# Altium integrated library Renesas Microprocessor SuperH.IntLib: 433 symbols (part 37 of 62)
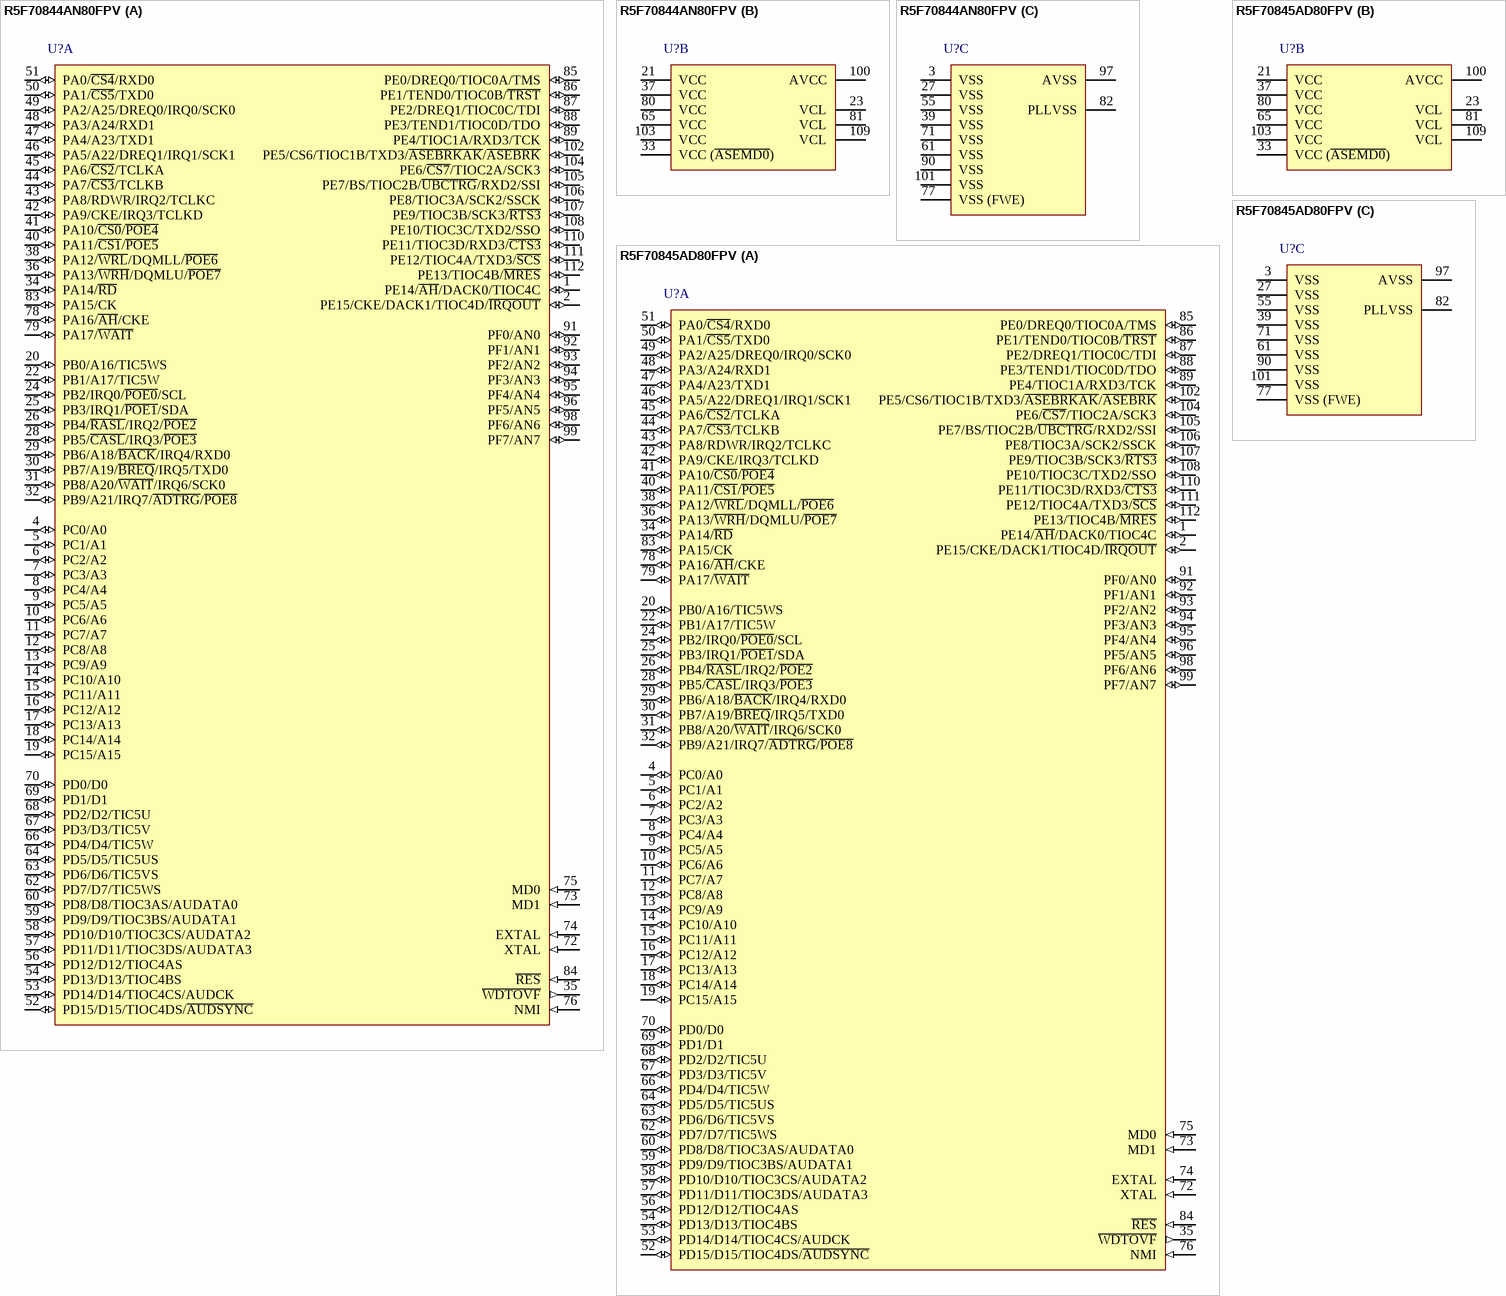
[diagram p304: symbols R5F70844AN80FPV to R5F70845AD80FPV]

## R5F70844AN80FPV
designator U?
32-Bit RISC Microcomputer, SH7080 Series, SH-2 core, 80MHz, 256K ROM, 16K RAM, PLQP0112JA-A (FP-112EV) Package, -20 to 85°C; Published: 28-Aug-2009; LatestRevisionDate: 15-Feb-2010; LatestRevisionNote: Updated to datasheet revision 4.00 Dec-2009.; DatasheetVersion: Rev.4.00, Dec-2009; PackageVersion: Sep-2005; PackageReference: PLQP0112JA-A; Publisher: Altium Limited; PackageDescription: 112-Pin Plastic Low Profile QFP, 20 x 20 x 1.4 mm Body, 0.65 mm Pitch; Code_JEITA: P-LQFP112-20x20-0.65; ComponentLink1Description: Manufacturer Link; ComponentLink1URL: http://www.renesas.com/fmwk.jsp?cnt=sh7080_root.jsp&fp=/products/mpumcu/superh_family/sh7080_series/sh7080_group/; ComponentLink2Description: Datasheet; ComponentLink2URL: http://documentation.renesas.com/eng/products/mpumcu/rej09b0181_sh7080.pdf; ComponentLink3Description: Packaging Specification; ComponentLink3URL: http://sg.renesas.com/media/products/common_info/package/pdf/ic/code/plqp0112ja_a.pdf
footprint PLQP0112JA-A_N (QFP, 112-Leads, Body 20x20mm, Pitch 0.65mm, IPC Medium Density)
footprint PLQP0112JA-A_L (QFP, 112-Leads, Body 20x20mm, Pitch 0.65mm, IPC High Density)
footprint PLQP0112JA-A_M (QFP, 112-Leads, Body 20x20mm, Pitch 0.65mm, IPC Low Density)
part A pins: 1 PE14/~{AH}/DACK0/TIOC4C (io), 2 PE15/CKE/DACK1/TIOC4D/~{IRQOUT} (io), 4 PC0/A0 (io), 5 PC1/A1 (io), 6 PC2/A2 (io), 7 PC3/A3 (io), 8 PC4/A4 (io), 9 PC5/A5 (io), 10 PC6/A6 (io), 11 PC7/A7 (io), 12 PC8/A8 (io), 13 PC9/A9 (io), 14 PC10/A10 (io), 15 PC11/A11 (io), 16 PC12/A12 (io), 17 PC13/A13 (io), 18 PC14/A14 (io), 19 PC15/A15 (io), 20 PB0/A16/TIC5WS (io), 22 PB1/A17/TIC5W (io), 24 PB2/IRQ0/~{POE0}/SCL (io), 25 PB3/IRQ1/~{POE1}/SDA (io), 26 PB4/~{RASL}/IRQ2/~{POE2} (io), 28 PB5/~{CASL}/IRQ3/~{POE3} (io), 29 PB6/A18/~{BACK}/IRQ4/RXD0 (io), 30 PB7/A19/~{BREQ}/IRQ5/TXD0 (io), 31 PB8/A20/~{WAIT}/IRQ6/SCK0 (io), 32 PB9/A21/IRQ7/~{ADTRG}/~{POE8} (io), 34 PA14/~{RD} (io), 35 ~{WDTOVF} (out), 36 PA13/~{WRH}/DQMLU/~{POE7} (io), 38 PA12/~{WRL}/DQMLL/~{POE6} (io), 40 PA11/~{CS1}/~{POE5} (io), 41 PA10/~{CS0}/~{POE4} (io), 42 PA9/CKE/IRQ3/TCLKD (io), 43 PA8/RDWR/IRQ2/TCLKC (io), 44 PA7/~{CS3}/TCLKB (io), 45 PA6/~{CS2}/TCLKA (io), 46 PA5/A22/DREQ1/IRQ1/SCK1 (io), 47 PA4/A23/TXD1 (io), 48 PA3/A24/RXD1 (io), 49 PA2/A25/DREQ0/IRQ0/SCK0 (io), 50 PA1/~{CS5}/TXD0 (io), 51 PA0/~{CS4}/RXD0 (io), 52 PD15/D15/TIOC4DS/~{AUDSYNC} (io), 53 PD14/D14/TIOC4CS/AUDCK (io), 54 PD13/D13/TIOC4BS (io), 56 PD12/D12/TIOC4AS (io), 57 PD11/D11/TIOC3DS/AUDATA3 (io), 58 PD10/D10/TIOC3CS/AUDATA2 (io), 59 PD9/D9/TIOC3BS/AUDATA1 (io), 60 PD8/D8/TIOC3AS/AUDATA0 (io), 62 PD7/D7/TIC5WS (io), 63 PD6/D6/TIC5VS (io), 64 PD5/D5/TIC5US (io), 66 PD4/D4/TIC5W (io), 67 PD3/D3/TIC5V (io), 68 PD2/D2/TIC5U (io), 69 PD1/D1 (io), 70 PD0/D0 (io), 72 XTAL (in), 73 MD1 (in), 74 EXTAL (in), 75 MD0 (in), 76 NMI (in), 78 PA16/~{AH}/CKE (io), 79 PA17/~{WAIT} (io), 83 PA15/CK (io), 84 ~{RES} (in), 85 PE0/DREQ0/TIOC0A/TMS (io), 86 PE1/TEND0/TIOC0B/~{TRST} (io), 87 PE2/DREQ1/TIOC0C/TDI (io), 88 PE3/TEND1/TIOC0D/TDO (io), 89 PE4/TIOC1A/RXD3/TCK (io), 91 PF0/AN0 (io), 92 PF1/AN1 (io), 93 PF2/AN2 (io), 94 PF3/AN3 (io), 95 PF4/AN4 (io), 96 PF5/AN5 (io), 98 PF6/AN6 (io), 99 PF7/AN7 (io), 102 PE5/CS6/TIOC1B/TXD3/~{ASEBRKAK}/~{ASEBRK} (io), 104 PE6/~{CS7}/TIOC2A/SCK3 (io), 105 PE7/BS/TIOC2B/~{UBCTRG}/RXD2/SSI (io), 106 PE8/TIOC3A/SCK2/SSCK (io), 107 PE9/TIOC3B/SCK3/~{RTS3} (io), 108 PE10/TIOC3C/TXD2/SSO (io), 110 PE11/TIOC3D/RXD3/~{CTS3} (io), 111 PE12/TIOC4A/TXD3/~{SCS} (io), 112 PE13/TIOC4B/~{MRES} (io)
part B pins: 21 VCC (power), 23 VCL (power), 33 VCC (~{ASEMD0}) (power), 37 VCC (power), 65 VCC (power), 80 VCC (power), 81 VCL (power), 100 AVCC (power), 103 VCC (power), 109 VCL (power)
part C pins: 3 VSS (power), 27 VSS (power), 39 VSS (power), 55 VSS (power), 61 VSS (power), 71 VSS (power), 77 VSS (FWE) (power), 82 PLLVSS (power), 90 VSS (power), 97 AVSS (power), 101 VSS (power)

## R5F70845AD80FPV
designator U?
32-Bit RISC Microcomputer, SH7080 Series, SH-2 core, 80MHz, 512K ROM, 32K RAM, PLQP0112JA-A (FP-112EV) Package, -40 to 85°C; Published: 28-Aug-2009; LatestRevisionDate: 15-Feb-2010; LatestRevisionNote: Updated to datasheet revision 4.00 Dec-2009.; DatasheetVersion: Rev.4.00, Dec-2009; PackageVersion: Sep-2005; PackageReference: PLQP0112JA-A; Publisher: Altium Limited; PackageDescription: 112-Pin Plastic Low Profile QFP, 20 x 20 x 1.4 mm Body, 0.65 mm Pitch; Code_JEITA: P-LQFP112-20x20-0.65; ComponentLink1Description: Manufacturer Link; ComponentLink1URL: http://www.renesas.com/fmwk.jsp?cnt=sh7080_root.jsp&fp=/products/mpumcu/superh_family/sh7080_series/sh7080_group/; ComponentLink2Description: Datasheet; ComponentLink2URL: http://documentation.renesas.com/eng/products/mpumcu/rej09b0181_sh7080.pdf; ComponentLink3Description: Packaging Specification; ComponentLink3URL: http://sg.renesas.com/media/products/common_info/package/pdf/ic/code/plqp0112ja_a.pdf
footprint PLQP0112JA-A_N (QFP, 112-Leads, Body 20x20mm, Pitch 0.65mm, IPC Medium Density)
footprint PLQP0112JA-A_L (QFP, 112-Leads, Body 20x20mm, Pitch 0.65mm, IPC High Density)
footprint PLQP0112JA-A_M (QFP, 112-Leads, Body 20x20mm, Pitch 0.65mm, IPC Low Density)
part A pins: 1 PE14/~{AH}/DACK0/TIOC4C (io), 2 PE15/CKE/DACK1/TIOC4D/~{IRQOUT} (io), 4 PC0/A0 (io), 5 PC1/A1 (io), 6 PC2/A2 (io), 7 PC3/A3 (io), 8 PC4/A4 (io), 9 PC5/A5 (io), 10 PC6/A6 (io), 11 PC7/A7 (io), 12 PC8/A8 (io), 13 PC9/A9 (io), 14 PC10/A10 (io), 15 PC11/A11 (io), 16 PC12/A12 (io), 17 PC13/A13 (io), 18 PC14/A14 (io), 19 PC15/A15 (io), 20 PB0/A16/TIC5WS (io), 22 PB1/A17/TIC5W (io), 24 PB2/IRQ0/~{POE0}/SCL (io), 25 PB3/IRQ1/~{POE1}/SDA (io), 26 PB4/~{RASL}/IRQ2/~{POE2} (io), 28 PB5/~{CASL}/IRQ3/~{POE3} (io), 29 PB6/A18/~{BACK}/IRQ4/RXD0 (io), 30 PB7/A19/~{BREQ}/IRQ5/TXD0 (io), 31 PB8/A20/~{WAIT}/IRQ6/SCK0 (io), 32 PB9/A21/IRQ7/~{ADTRG}/~{POE8} (io), 34 PA14/~{RD} (io), 35 ~{WDTOVF} (out), 36 PA13/~{WRH}/DQMLU/~{POE7} (io), 38 PA12/~{WRL}/DQMLL/~{POE6} (io), 40 PA11/~{CS1}/~{POE5} (io), 41 PA10/~{CS0}/~{POE4} (io), 42 PA9/CKE/IRQ3/TCLKD (io), 43 PA8/RDWR/IRQ2/TCLKC (io), 44 PA7/~{CS3}/TCLKB (io), 45 PA6/~{CS2}/TCLKA (io), 46 PA5/A22/DREQ1/IRQ1/SCK1 (io), 47 PA4/A23/TXD1 (io), 48 PA3/A24/RXD1 (io), 49 PA2/A25/DREQ0/IRQ0/SCK0 (io), 50 PA1/~{CS5}/TXD0 (io), 51 PA0/~{CS4}/RXD0 (io), 52 PD15/D15/TIOC4DS/~{AUDSYNC} (io), 53 PD14/D14/TIOC4CS/AUDCK (io), 54 PD13/D13/TIOC4BS (io), 56 PD12/D12/TIOC4AS (io), 57 PD11/D11/TIOC3DS/AUDATA3 (io), 58 PD10/D10/TIOC3CS/AUDATA2 (io), 59 PD9/D9/TIOC3BS/AUDATA1 (io), 60 PD8/D8/TIOC3AS/AUDATA0 (io), 62 PD7/D7/TIC5WS (io), 63 PD6/D6/TIC5VS (io), 64 PD5/D5/TIC5US (io), 66 PD4/D4/TIC5W (io), 67 PD3/D3/TIC5V (io), 68 PD2/D2/TIC5U (io), 69 PD1/D1 (io), 70 PD0/D0 (io), 72 XTAL (in), 73 MD1 (in), 74 EXTAL (in), 75 MD0 (in), 76 NMI (in), 78 PA16/~{AH}/CKE (io), 79 PA17/~{WAIT} (io), 83 PA15/CK (io), 84 ~{RES} (in), 85 PE0/DREQ0/TIOC0A/TMS (io), 86 PE1/TEND0/TIOC0B/~{TRST} (io), 87 PE2/DREQ1/TIOC0C/TDI (io), 88 PE3/TEND1/TIOC0D/TDO (io), 89 PE4/TIOC1A/RXD3/TCK (io), 91 PF0/AN0 (io), 92 PF1/AN1 (io), 93 PF2/AN2 (io), 94 PF3/AN3 (io), 95 PF4/AN4 (io), 96 PF5/AN5 (io), 98 PF6/AN6 (io), 99 PF7/AN7 (io), 102 PE5/CS6/TIOC1B/TXD3/~{ASEBRKAK}/~{ASEBRK} (io), 104 PE6/~{CS7}/TIOC2A/SCK3 (io), 105 PE7/BS/TIOC2B/~{UBCTRG}/RXD2/SSI (io), 106 PE8/TIOC3A/SCK2/SSCK (io), 107 PE9/TIOC3B/SCK3/~{RTS3} (io), 108 PE10/TIOC3C/TXD2/SSO (io), 110 PE11/TIOC3D/RXD3/~{CTS3} (io), 111 PE12/TIOC4A/TXD3/~{SCS} (io), 112 PE13/TIOC4B/~{MRES} (io)
part B pins: 21 VCC (power), 23 VCL (power), 33 VCC (~{ASEMD0}) (power), 37 VCC (power), 65 VCC (power), 80 VCC (power), 81 VCL (power), 100 AVCC (power), 103 VCC (power), 109 VCL (power)
part C pins: 3 VSS (power), 27 VSS (power), 39 VSS (power), 55 VSS (power), 61 VSS (power), 71 VSS (power), 77 VSS (FWE) (power), 82 PLLVSS (power), 90 VSS (power), 97 AVSS (power), 101 VSS (power)

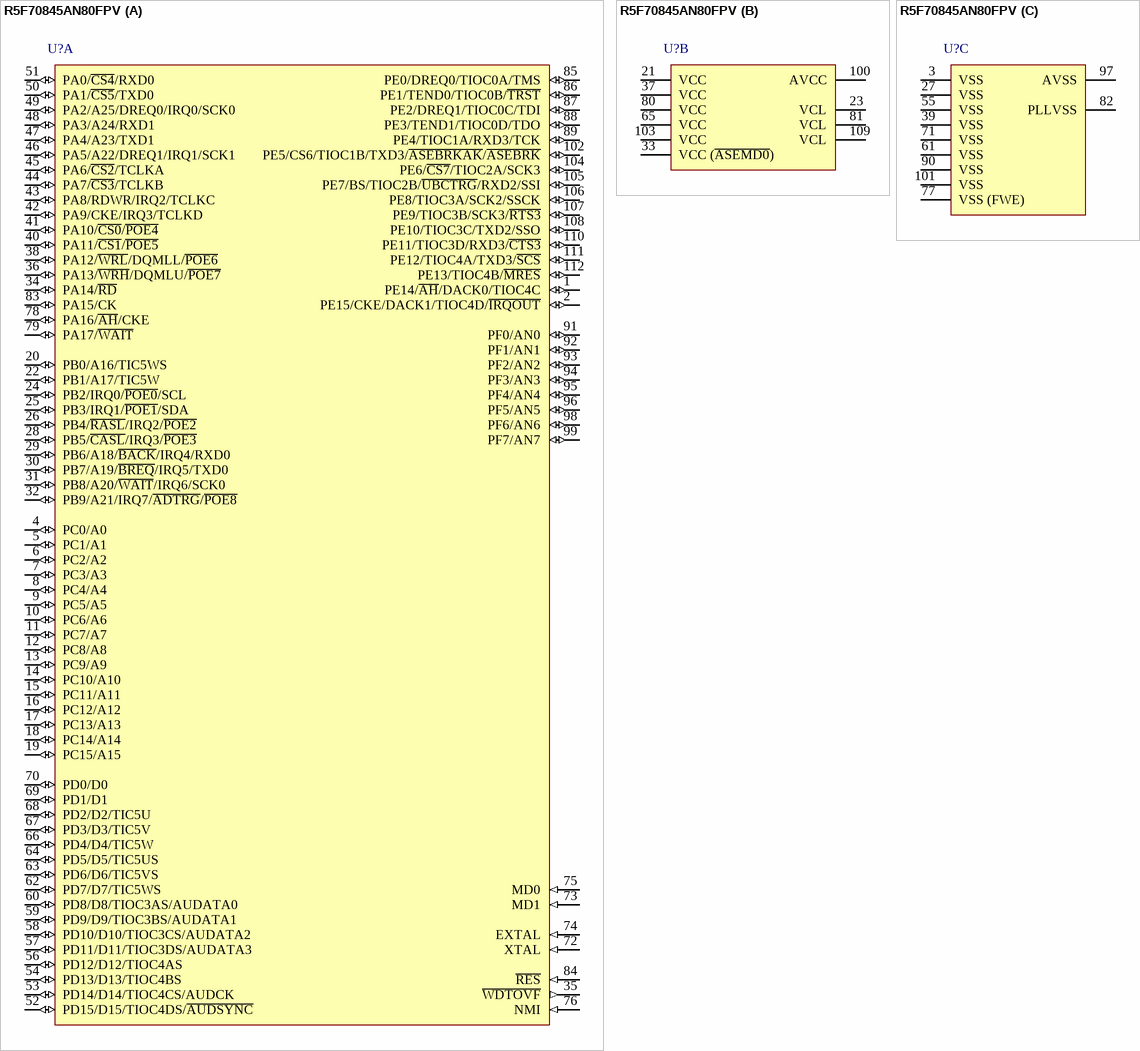
[diagram p133: symbol R5F70845AN80FPV]

## R5F70845AN80FPV
designator U?
32-Bit RISC Microcomputer, SH7080 Series, SH-2 core, 80MHz, 512K ROM, 32K RAM, PLQP0112JA-A (FP-112EV) Package, -20 to 85°C; Published: 28-Aug-2009; LatestRevisionDate: 15-Feb-2010; LatestRevisionNote: Updated to datasheet revision 4.00 Dec-2009.; DatasheetVersion: Rev.4.00, Dec-2009; PackageVersion: Sep-2005; PackageReference: PLQP0112JA-A; Publisher: Altium Limited; PackageDescription: 112-Pin Plastic Low Profile QFP, 20 x 20 x 1.4 mm Body, 0.65 mm Pitch; Code_JEITA: P-LQFP112-20x20-0.65; ComponentLink1Description: Manufacturer Link; ComponentLink1URL: http://www.renesas.com/fmwk.jsp?cnt=sh7080_root.jsp&fp=/products/mpumcu/superh_family/sh7080_series/sh7080_group/; ComponentLink2Description: Datasheet; ComponentLink2URL: http://documentation.renesas.com/eng/products/mpumcu/rej09b0181_sh7080.pdf; ComponentLink3Description: Packaging Specification; ComponentLink3URL: http://sg.renesas.com/media/products/common_info/package/pdf/ic/code/plqp0112ja_a.pdf
footprint PLQP0112JA-A_N (QFP, 112-Leads, Body 20x20mm, Pitch 0.65mm, IPC Medium Density)
footprint PLQP0112JA-A_L (QFP, 112-Leads, Body 20x20mm, Pitch 0.65mm, IPC High Density)
footprint PLQP0112JA-A_M (QFP, 112-Leads, Body 20x20mm, Pitch 0.65mm, IPC Low Density)
part A pins: 1 PE14/~{AH}/DACK0/TIOC4C (io), 2 PE15/CKE/DACK1/TIOC4D/~{IRQOUT} (io), 4 PC0/A0 (io), 5 PC1/A1 (io), 6 PC2/A2 (io), 7 PC3/A3 (io), 8 PC4/A4 (io), 9 PC5/A5 (io), 10 PC6/A6 (io), 11 PC7/A7 (io), 12 PC8/A8 (io), 13 PC9/A9 (io), 14 PC10/A10 (io), 15 PC11/A11 (io), 16 PC12/A12 (io), 17 PC13/A13 (io), 18 PC14/A14 (io), 19 PC15/A15 (io), 20 PB0/A16/TIC5WS (io), 22 PB1/A17/TIC5W (io), 24 PB2/IRQ0/~{POE0}/SCL (io), 25 PB3/IRQ1/~{POE1}/SDA (io), 26 PB4/~{RASL}/IRQ2/~{POE2} (io), 28 PB5/~{CASL}/IRQ3/~{POE3} (io), 29 PB6/A18/~{BACK}/IRQ4/RXD0 (io), 30 PB7/A19/~{BREQ}/IRQ5/TXD0 (io), 31 PB8/A20/~{WAIT}/IRQ6/SCK0 (io), 32 PB9/A21/IRQ7/~{ADTRG}/~{POE8} (io), 34 PA14/~{RD} (io), 35 ~{WDTOVF} (out), 36 PA13/~{WRH}/DQMLU/~{POE7} (io), 38 PA12/~{WRL}/DQMLL/~{POE6} (io), 40 PA11/~{CS1}/~{POE5} (io), 41 PA10/~{CS0}/~{POE4} (io), 42 PA9/CKE/IRQ3/TCLKD (io), 43 PA8/RDWR/IRQ2/TCLKC (io), 44 PA7/~{CS3}/TCLKB (io), 45 PA6/~{CS2}/TCLKA (io), 46 PA5/A22/DREQ1/IRQ1/SCK1 (io), 47 PA4/A23/TXD1 (io), 48 PA3/A24/RXD1 (io), 49 PA2/A25/DREQ0/IRQ0/SCK0 (io), 50 PA1/~{CS5}/TXD0 (io), 51 PA0/~{CS4}/RXD0 (io), 52 PD15/D15/TIOC4DS/~{AUDSYNC} (io), 53 PD14/D14/TIOC4CS/AUDCK (io), 54 PD13/D13/TIOC4BS (io), 56 PD12/D12/TIOC4AS (io), 57 PD11/D11/TIOC3DS/AUDATA3 (io), 58 PD10/D10/TIOC3CS/AUDATA2 (io), 59 PD9/D9/TIOC3BS/AUDATA1 (io), 60 PD8/D8/TIOC3AS/AUDATA0 (io), 62 PD7/D7/TIC5WS (io), 63 PD6/D6/TIC5VS (io), 64 PD5/D5/TIC5US (io), 66 PD4/D4/TIC5W (io), 67 PD3/D3/TIC5V (io), 68 PD2/D2/TIC5U (io), 69 PD1/D1 (io), 70 PD0/D0 (io), 72 XTAL (in), 73 MD1 (in), 74 EXTAL (in), 75 MD0 (in), 76 NMI (in), 78 PA16/~{AH}/CKE (io), 79 PA17/~{WAIT} (io), 83 PA15/CK (io), 84 ~{RES} (in), 85 PE0/DREQ0/TIOC0A/TMS (io), 86 PE1/TEND0/TIOC0B/~{TRST} (io), 87 PE2/DREQ1/TIOC0C/TDI (io), 88 PE3/TEND1/TIOC0D/TDO (io), 89 PE4/TIOC1A/RXD3/TCK (io), 91 PF0/AN0 (io), 92 PF1/AN1 (io), 93 PF2/AN2 (io), 94 PF3/AN3 (io), 95 PF4/AN4 (io), 96 PF5/AN5 (io), 98 PF6/AN6 (io), 99 PF7/AN7 (io), 102 PE5/CS6/TIOC1B/TXD3/~{ASEBRKAK}/~{ASEBRK} (io), 104 PE6/~{CS7}/TIOC2A/SCK3 (io), 105 PE7/BS/TIOC2B/~{UBCTRG}/RXD2/SSI (io), 106 PE8/TIOC3A/SCK2/SSCK (io), 107 PE9/TIOC3B/SCK3/~{RTS3} (io), 108 PE10/TIOC3C/TXD2/SSO (io), 110 PE11/TIOC3D/RXD3/~{CTS3} (io), 111 PE12/TIOC4A/TXD3/~{SCS} (io), 112 PE13/TIOC4B/~{MRES} (io)
part B pins: 21 VCC (power), 23 VCL (power), 33 VCC (~{ASEMD0}) (power), 37 VCC (power), 65 VCC (power), 80 VCC (power), 81 VCL (power), 100 AVCC (power), 103 VCC (power), 109 VCL (power)
part C pins: 3 VSS (power), 27 VSS (power), 39 VSS (power), 55 VSS (power), 61 VSS (power), 71 VSS (power), 77 VSS (FWE) (power), 82 PLLVSS (power), 90 VSS (power), 97 AVSS (power), 101 VSS (power)

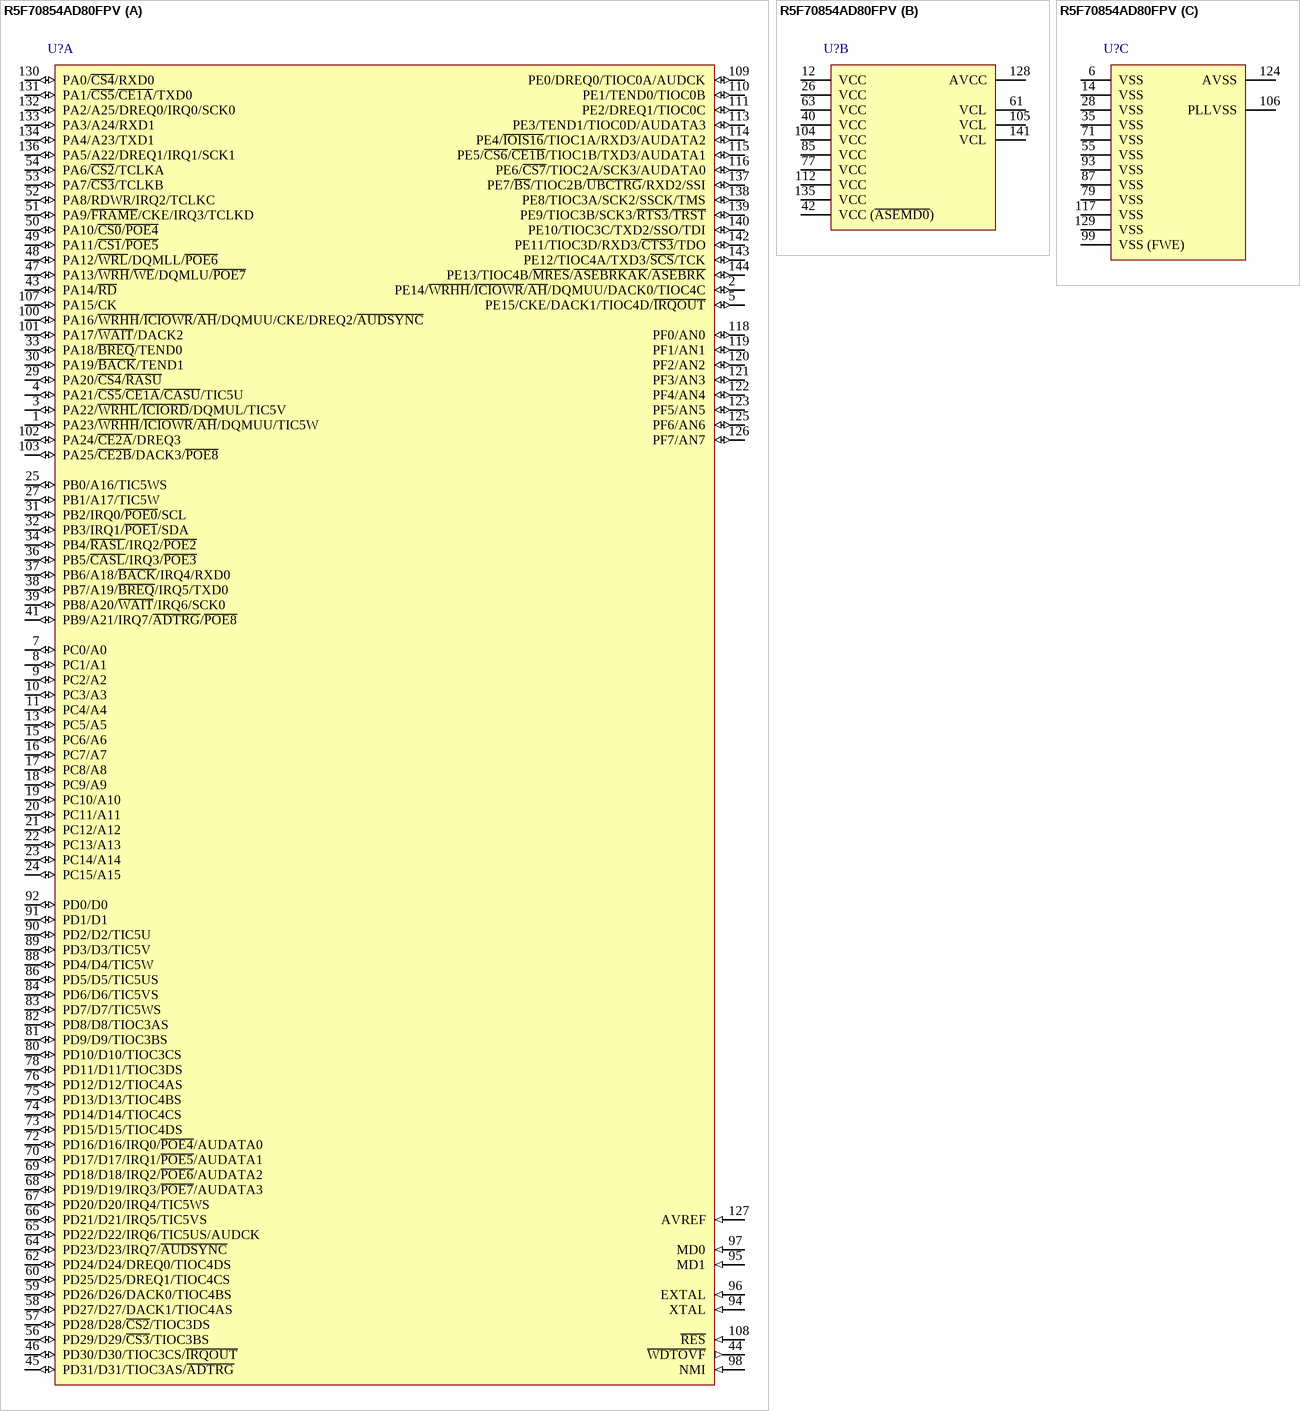
[diagram p134: symbol R5F70854AD80FPV]

## R5F70854AD80FPV
designator U?
32-Bit RISC Microcomputer, SH7080 Series, SH-2 core, 80MHz, 256K ROM, 16K RAM, 144-pin PLQFP, -40 to 85°C; Published: 28-Aug-2009; LatestRevisionDate: 15-Feb-2010; LatestRevisionNote: Updated to datasheet revision 4.00 Dec-2009.; DatasheetVersion: Rev.4.00, Dec-2009; PackageVersion: Sep-2005; PackageReference: PLQP0144KA-A; Publisher: Altium Limited; PackageDescription: 144-Pin Plastic Low Profile QFP, 20 x 20 x 1.4 mm Body, 0.5 mm Pitch; Code_JEITA: P-LQFP144-20x20-0.50; Code_IPC: SQFP50P2200X2200-144; ComponentLink1Description: Manufacturer Link; ComponentLink1URL: http://www.renesas.com/fmwk.jsp?cnt=sh7080_root.jsp&fp=/products/mpumcu/superh_family/sh7080_series/sh7080_group/; ComponentLink2Description: Datasheet; ComponentLink2URL: http://documentation.renesas.com/eng/products/mpumcu/rej09b0181_sh7080.pdf; ComponentLink3Description: Packaging Specification; ComponentLink3URL: http://sg.renesas.com/media/products/common_info/package/pdf/ic/code/plqp0144ka_a.pdf
footprint PLQP0144KA-A_N (Shrink QFP, 144-Leads, Body 20x20mm, Pitch 0.5mm, IPC Medium Density)
footprint PLQP0144KA-A_L (Shrink QFP, 144-Leads, Body 20x20mm, Pitch 0.5mm, IPC High Density)
footprint PLQP0144KA-A_M (Shrink QFP, 144-Leads, Body 20x20mm, Pitch 0.5mm, IPC Low Density)
part A pins: 1 PA23/~{WRHH}/~{ICIOWR}/~{AH}/DQMUU/TIC5W (io), 2 PE14/~{WRHH}/~{ICIOWR}/~{AH}/DQMUU/DACK0/TIOC4C (io), 3 PA22/~{WRHL}/~{ICIORD}/DQMUL/TIC5V (io), 4 PA21/~{CS5}/~{CE1A}/~{CASU}/TIC5U (io), 5 PE15/CKE/DACK1/TIOC4D/~{IRQOUT} (io), 7 PC0/A0 (io), 8 PC1/A1 (io), 9 PC2/A2 (io), 10 PC3/A3 (io), 11 PC4/A4 (io), 13 PC5/A5 (io), 15 PC6/A6 (io), 16 PC7/A7 (io), 17 PC8/A8 (io), 18 PC9/A9 (io), 19 PC10/A10 (io), 20 PC11/A11 (io), 21 PC12/A12 (io), 22 PC13/A13 (io), 23 PC14/A14 (io), 24 PC15/A15 (io), 25 PB0/A16/TIC5WS (io), 27 PB1/A17/TIC5W (io), 29 PA20/~{CS4}/~{RASU} (io), 30 PA19/~{BACK}/TEND1 (io), 31 PB2/IRQ0/~{POE0}/SCL (io), 32 PB3/IRQ1/~{POE1}/SDA (io), 33 PA18/~{BREQ}/TEND0 (io), 34 PB4/~{RASL}/IRQ2/~{POE2} (io), 36 PB5/~{CASL}/IRQ3/~{POE3} (io), 37 PB6/A18/~{BACK}/IRQ4/RXD0 (io), 38 PB7/A19/~{BREQ}/IRQ5/TXD0 (io), 39 PB8/A20/~{WAIT}/IRQ6/SCK0 (io), 41 PB9/A21/IRQ7/~{ADTRG}/~{POE8} (io), 43 PA14/~{RD} (io), 44 ~{WDTOVF} (out), 45 PD31/D31/TIOC3AS/~{ADTRG} (io), 46 PD30/D30/TIOC3CS/~{IRQOUT} (io), 47 PA13/~{WRH}/~{WE}/DQMLU/~{POE7} (io), 48 PA12/~{WRL}/DQMLL/~{POE6} (io), 49 PA11/~{CS1}/~{POE5} (io), 50 PA10/~{CS0}/~{POE4} (io), 51 PA9/~{FRAME}/CKE/IRQ3/TCLKD (io), 52 PA8/RDWR/IRQ2/TCLKC (io), 53 PA7/~{CS3}/TCLKB (io), 54 PA6/~{CS2}/TCLKA (io), 56 PD29/D29/~{CS3}/TIOC3BS (io), 57 PD28/D28/~{CS2}/TIOC3DS (io), 58 PD27/D27/DACK1/TIOC4AS (io), 59 PD26/D26/DACK0/TIOC4BS (io), 60 PD25/D25/DREQ1/TIOC4CS (io), 62 PD24/D24/DREQ0/TIOC4DS (io), 64 PD23/D23/IRQ7/~{AUDSYNC} (io), 65 PD22/D22/IRQ6/TIC5US/AUDCK (io), 66 PD21/D21/IRQ5/TIC5VS (io), 67 PD20/D20/IRQ4/TIC5WS (io), 68 PD19/D19/IRQ3/~{POE7}/AUDATA3 (io), 69 PD18/D18/IRQ2/~{POE6}/AUDATA2 (io), 70 PD17/D17/IRQ1/~{POE5}/AUDATA1 (io), 72 PD16/D16/IRQ0/~{POE4}/AUDATA0 (io), 73 PD15/D15/TIOC4DS (io), 74 PD14/D14/TIOC4CS (io), 75 PD13/D13/TIOC4BS (io), 76 PD12/D12/TIOC4AS (io), 78 PD11/D11/TIOC3DS (io), 80 PD10/D10/TIOC3CS (io), 81 PD9/D9/TIOC3BS (io), 82 PD8/D8/TIOC3AS (io), 83 PD7/D7/TIC5WS (io), 84 PD6/D6/TIC5VS (io), 86 PD5/D5/TIC5US (io), 88 PD4/D4/TIC5W (io), 89 PD3/D3/TIC5V (io), 90 PD2/D2/TIC5U (io), 91 PD1/D1 (io), 92 PD0/D0 (io), 94 XTAL (in), 95 MD1 (in), 96 EXTAL (in), 97 MD0 (in), 98 NMI (in), 100 PA16/~{WRHH}/~{ICIOWR}/~{AH}/DQMUU/CKE/DREQ2/~{AUDSYNC} (io), 101 PA17/~{WAIT}/DACK2 (io), 102 PA24/~{CE2A}/DREQ3 (io), 103 PA25/~{CE2B}/DACK3/~{POE8} (io), 107 PA15/CK (io), 108 ~{RES} (in), 109 PE0/DREQ0/TIOC0A/AUDCK (io), 110 PE1/TEND0/TIOC0B (io), 111 PE2/DREQ1/TIOC0C (io), 113 PE3/TEND1/TIOC0D/AUDATA3 (io), 114 PE4/~{IOIS16}/TIOC1A/RXD3/AUDATA2 (io), 115 PE5/~{CS6}/~{CE1B}/TIOC1B/TXD3/AUDATA1 (io), 116 PE6/~{CS7}/TIOC2A/SCK3/AUDATA0 (io), 118 PF0/AN0 (io), 119 PF1/AN1 (io), 120 PF2/AN2 (io), 121 PF3/AN3 (io), 122 PF4/AN4 (io), 123 PF5/AN5 (io), 125 PF6/AN6 (io), 126 PF7/AN7 (io), 127 AVREF (in), 130 PA0/~{CS4}/RXD0 (io), 131 PA1/~{CS5}/~{CE1A}/TXD0 (io), 132 PA2/A25/DREQ0/IRQ0/SCK0 (io), 133 PA3/A24/RXD1 (io), 134 PA4/A23/TXD1 (io), 136 PA5/A22/DREQ1/IRQ1/SCK1 (io), 137 PE7/~{BS}/TIOC2B/~{UBCTRG}/RXD2/SSI (io), 138 PE8/TIOC3A/SCK2/SSCK/TMS (io), 139 PE9/TIOC3B/SCK3/~{RTS3}/~{TRST} (io), 140 PE10/TIOC3C/TXD2/SSO/TDI (io), 142 PE11/TIOC3D/RXD3/~{CTS3}/TDO (io), 143 PE12/TIOC4A/TXD3/~{SCS}/TCK (io), 144 PE13/TIOC4B/~{MRES}/~{ASEBRKAK}/~{ASEBRK} (io)
part B pins: 12 VCC (power), 26 VCC (power), 40 VCC (power), 42 VCC (~{ASEMD0}) (power), 61 VCL (power), 63 VCC (power), 77 VCC (power), 85 VCC (power), 104 VCC (power), 105 VCL (power), 112 VCC (power), 128 AVCC (power), 135 VCC (power), 141 VCL (power)
part C pins: 6 VSS (power), 14 VSS (power), 28 VSS (power), 35 VSS (power), 55 VSS (power), 71 VSS (power), 79 VSS (power), 87 VSS (power), 93 VSS (power), 99 VSS (FWE) (power), 106 PLLVSS (power), 117 VSS (power), 124 AVSS (power), 129 VSS (power)

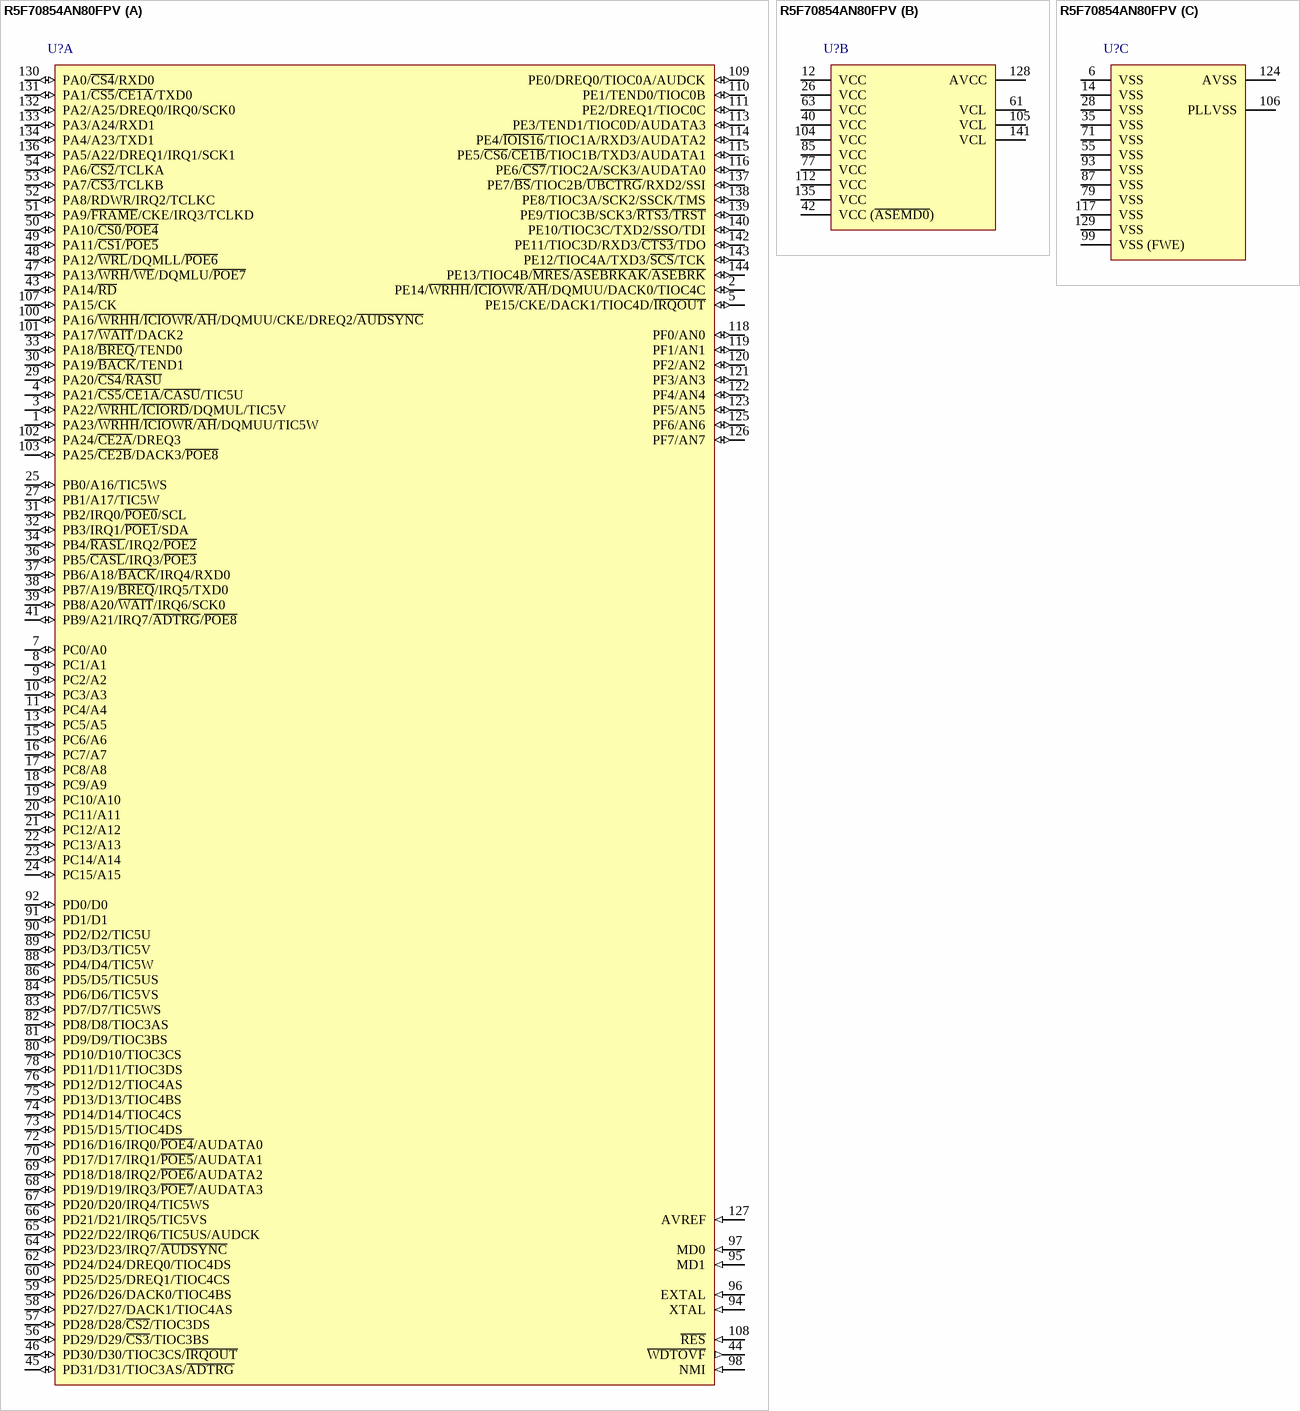
[diagram p135: symbol R5F70854AN80FPV]

## R5F70854AN80FPV
designator U?
32-Bit RISC Microcomputer, SH7080 Series, SH-2 core, 80MHz, 256K ROM, 16K RAM, 144-pin PLQFP, -20 to 85°C; Published: 28-Aug-2009; LatestRevisionDate: 15-Feb-2010; LatestRevisionNote: Updated to datasheet revision 4.00 Dec-2009.; DatasheetVersion: Rev.4.00, Dec-2009; PackageVersion: Sep-2005; PackageReference: PLQP0144KA-A; Publisher: Altium Limited; PackageDescription: 144-Pin Plastic Low Profile QFP, 20 x 20 x 1.4 mm Body, 0.5 mm Pitch; Code_JEITA: P-LQFP144-20x20-0.50; Code_IPC: SQFP50P2200X2200-144; ComponentLink1Description: Manufacturer Link; ComponentLink1URL: http://www.renesas.com/fmwk.jsp?cnt=sh7080_root.jsp&fp=/products/mpumcu/superh_family/sh7080_series/sh7080_group/; ComponentLink2Description: Datasheet; ComponentLink2URL: http://documentation.renesas.com/eng/products/mpumcu/rej09b0181_sh7080.pdf; ComponentLink3Description: Packaging Specification; ComponentLink3URL: http://sg.renesas.com/media/products/common_info/package/pdf/ic/code/plqp0144ka_a.pdf
footprint PLQP0144KA-A_N (Shrink QFP, 144-Leads, Body 20x20mm, Pitch 0.5mm, IPC Medium Density)
footprint PLQP0144KA-A_L (Shrink QFP, 144-Leads, Body 20x20mm, Pitch 0.5mm, IPC High Density)
footprint PLQP0144KA-A_M (Shrink QFP, 144-Leads, Body 20x20mm, Pitch 0.5mm, IPC Low Density)
part A pins: 1 PA23/~{WRHH}/~{ICIOWR}/~{AH}/DQMUU/TIC5W (io), 2 PE14/~{WRHH}/~{ICIOWR}/~{AH}/DQMUU/DACK0/TIOC4C (io), 3 PA22/~{WRHL}/~{ICIORD}/DQMUL/TIC5V (io), 4 PA21/~{CS5}/~{CE1A}/~{CASU}/TIC5U (io), 5 PE15/CKE/DACK1/TIOC4D/~{IRQOUT} (io), 7 PC0/A0 (io), 8 PC1/A1 (io), 9 PC2/A2 (io), 10 PC3/A3 (io), 11 PC4/A4 (io), 13 PC5/A5 (io), 15 PC6/A6 (io), 16 PC7/A7 (io), 17 PC8/A8 (io), 18 PC9/A9 (io), 19 PC10/A10 (io), 20 PC11/A11 (io), 21 PC12/A12 (io), 22 PC13/A13 (io), 23 PC14/A14 (io), 24 PC15/A15 (io), 25 PB0/A16/TIC5WS (io), 27 PB1/A17/TIC5W (io), 29 PA20/~{CS4}/~{RASU} (io), 30 PA19/~{BACK}/TEND1 (io), 31 PB2/IRQ0/~{POE0}/SCL (io), 32 PB3/IRQ1/~{POE1}/SDA (io), 33 PA18/~{BREQ}/TEND0 (io), 34 PB4/~{RASL}/IRQ2/~{POE2} (io), 36 PB5/~{CASL}/IRQ3/~{POE3} (io), 37 PB6/A18/~{BACK}/IRQ4/RXD0 (io), 38 PB7/A19/~{BREQ}/IRQ5/TXD0 (io), 39 PB8/A20/~{WAIT}/IRQ6/SCK0 (io), 41 PB9/A21/IRQ7/~{ADTRG}/~{POE8} (io), 43 PA14/~{RD} (io), 44 ~{WDTOVF} (out), 45 PD31/D31/TIOC3AS/~{ADTRG} (io), 46 PD30/D30/TIOC3CS/~{IRQOUT} (io), 47 PA13/~{WRH}/~{WE}/DQMLU/~{POE7} (io), 48 PA12/~{WRL}/DQMLL/~{POE6} (io), 49 PA11/~{CS1}/~{POE5} (io), 50 PA10/~{CS0}/~{POE4} (io), 51 PA9/~{FRAME}/CKE/IRQ3/TCLKD (io), 52 PA8/RDWR/IRQ2/TCLKC (io), 53 PA7/~{CS3}/TCLKB (io), 54 PA6/~{CS2}/TCLKA (io), 56 PD29/D29/~{CS3}/TIOC3BS (io), 57 PD28/D28/~{CS2}/TIOC3DS (io), 58 PD27/D27/DACK1/TIOC4AS (io), 59 PD26/D26/DACK0/TIOC4BS (io), 60 PD25/D25/DREQ1/TIOC4CS (io), 62 PD24/D24/DREQ0/TIOC4DS (io), 64 PD23/D23/IRQ7/~{AUDSYNC} (io), 65 PD22/D22/IRQ6/TIC5US/AUDCK (io), 66 PD21/D21/IRQ5/TIC5VS (io), 67 PD20/D20/IRQ4/TIC5WS (io), 68 PD19/D19/IRQ3/~{POE7}/AUDATA3 (io), 69 PD18/D18/IRQ2/~{POE6}/AUDATA2 (io), 70 PD17/D17/IRQ1/~{POE5}/AUDATA1 (io), 72 PD16/D16/IRQ0/~{POE4}/AUDATA0 (io), 73 PD15/D15/TIOC4DS (io), 74 PD14/D14/TIOC4CS (io), 75 PD13/D13/TIOC4BS (io), 76 PD12/D12/TIOC4AS (io), 78 PD11/D11/TIOC3DS (io), 80 PD10/D10/TIOC3CS (io), 81 PD9/D9/TIOC3BS (io), 82 PD8/D8/TIOC3AS (io), 83 PD7/D7/TIC5WS (io), 84 PD6/D6/TIC5VS (io), 86 PD5/D5/TIC5US (io), 88 PD4/D4/TIC5W (io), 89 PD3/D3/TIC5V (io), 90 PD2/D2/TIC5U (io), 91 PD1/D1 (io), 92 PD0/D0 (io), 94 XTAL (in), 95 MD1 (in), 96 EXTAL (in), 97 MD0 (in), 98 NMI (in), 100 PA16/~{WRHH}/~{ICIOWR}/~{AH}/DQMUU/CKE/DREQ2/~{AUDSYNC} (io), 101 PA17/~{WAIT}/DACK2 (io), 102 PA24/~{CE2A}/DREQ3 (io), 103 PA25/~{CE2B}/DACK3/~{POE8} (io), 107 PA15/CK (io), 108 ~{RES} (in), 109 PE0/DREQ0/TIOC0A/AUDCK (io), 110 PE1/TEND0/TIOC0B (io), 111 PE2/DREQ1/TIOC0C (io), 113 PE3/TEND1/TIOC0D/AUDATA3 (io), 114 PE4/~{IOIS16}/TIOC1A/RXD3/AUDATA2 (io), 115 PE5/~{CS6}/~{CE1B}/TIOC1B/TXD3/AUDATA1 (io), 116 PE6/~{CS7}/TIOC2A/SCK3/AUDATA0 (io), 118 PF0/AN0 (io), 119 PF1/AN1 (io), 120 PF2/AN2 (io), 121 PF3/AN3 (io), 122 PF4/AN4 (io), 123 PF5/AN5 (io), 125 PF6/AN6 (io), 126 PF7/AN7 (io), 127 AVREF (in), 130 PA0/~{CS4}/RXD0 (io), 131 PA1/~{CS5}/~{CE1A}/TXD0 (io), 132 PA2/A25/DREQ0/IRQ0/SCK0 (io), 133 PA3/A24/RXD1 (io), 134 PA4/A23/TXD1 (io), 136 PA5/A22/DREQ1/IRQ1/SCK1 (io), 137 PE7/~{BS}/TIOC2B/~{UBCTRG}/RXD2/SSI (io), 138 PE8/TIOC3A/SCK2/SSCK/TMS (io), 139 PE9/TIOC3B/SCK3/~{RTS3}/~{TRST} (io), 140 PE10/TIOC3C/TXD2/SSO/TDI (io), 142 PE11/TIOC3D/RXD3/~{CTS3}/TDO (io), 143 PE12/TIOC4A/TXD3/~{SCS}/TCK (io), 144 PE13/TIOC4B/~{MRES}/~{ASEBRKAK}/~{ASEBRK} (io)
part B pins: 12 VCC (power), 26 VCC (power), 40 VCC (power), 42 VCC (~{ASEMD0}) (power), 61 VCL (power), 63 VCC (power), 77 VCC (power), 85 VCC (power), 104 VCC (power), 105 VCL (power), 112 VCC (power), 128 AVCC (power), 135 VCC (power), 141 VCL (power)
part C pins: 6 VSS (power), 14 VSS (power), 28 VSS (power), 35 VSS (power), 55 VSS (power), 71 VSS (power), 79 VSS (power), 87 VSS (power), 93 VSS (power), 99 VSS (FWE) (power), 106 PLLVSS (power), 117 VSS (power), 124 AVSS (power), 129 VSS (power)

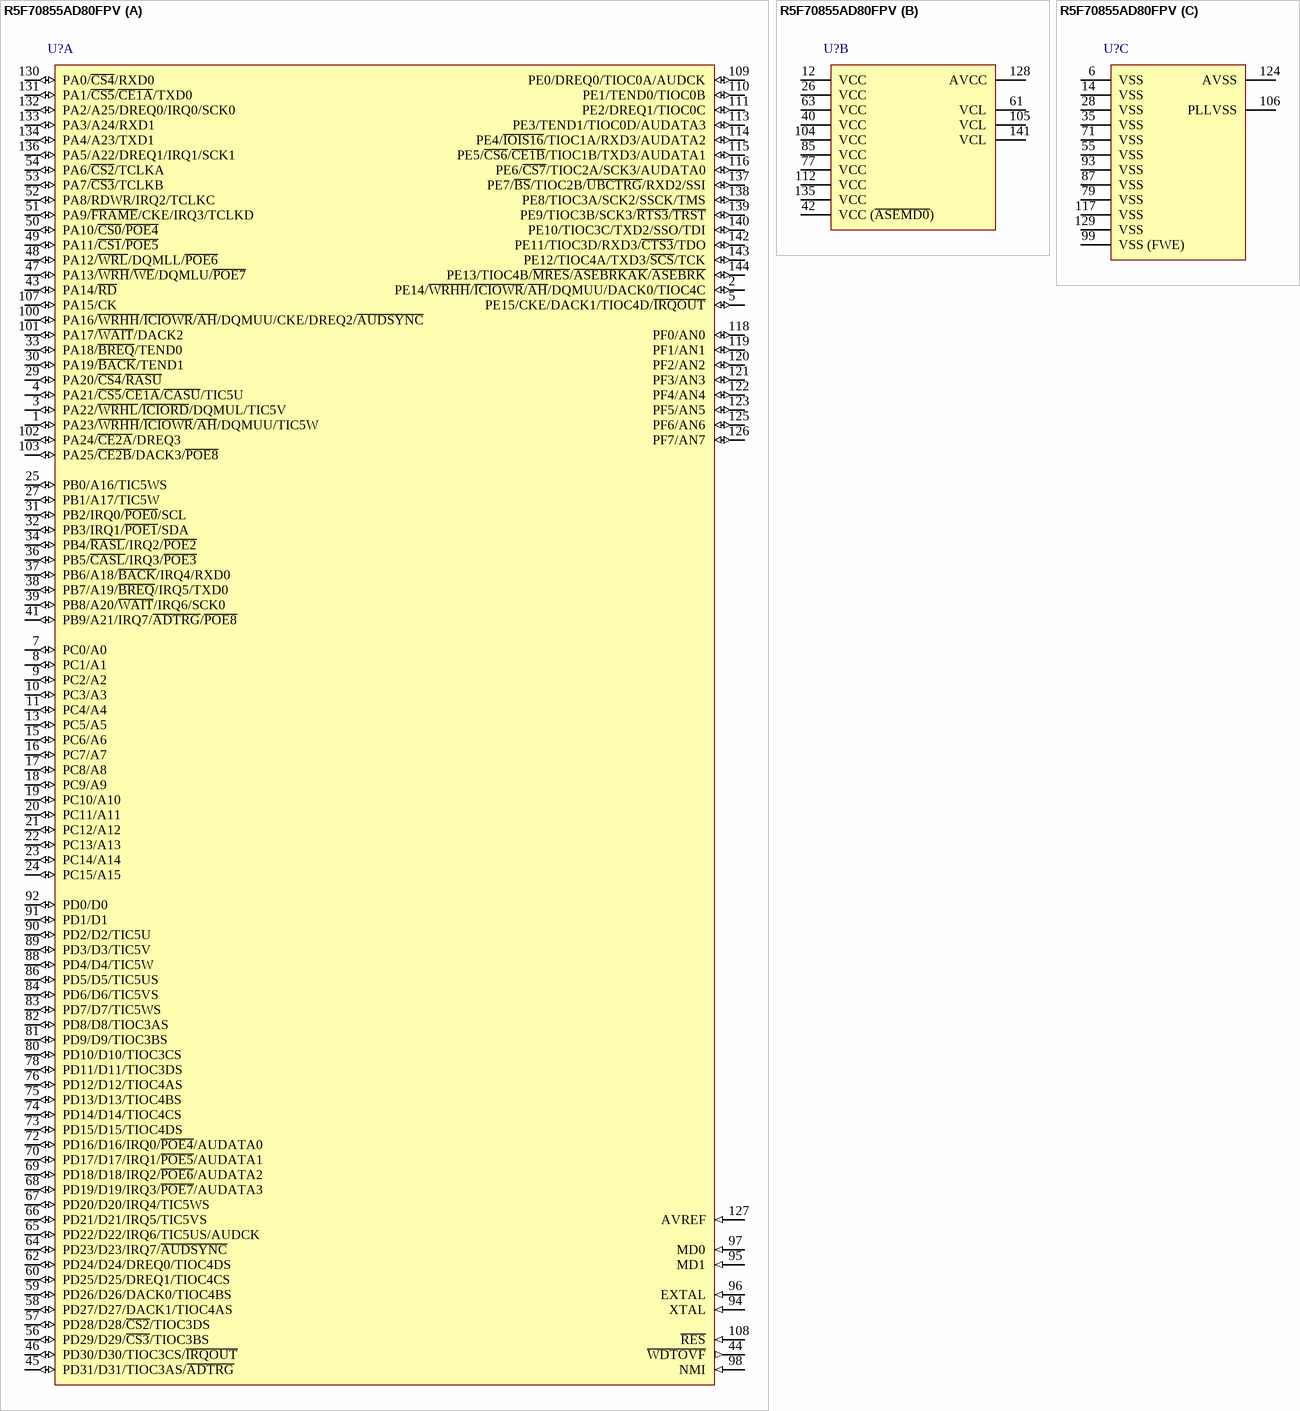
[diagram p136: symbol R5F70855AD80FPV]

## R5F70855AD80FPV
designator U?
32-Bit RISC Microcomputer, SH7080 Series, SH-2 core, 80MHz, 512K ROM, 32K RAM, 144-pin PLQFP, -40 to 85°C; Published: 28-Aug-2009; LatestRevisionDate: 15-Feb-2010; LatestRevisionNote: Updated to datasheet revision 4.00 Dec-2009.; DatasheetVersion: Rev.4.00, Dec-2009; PackageVersion: Sep-2005; PackageReference: PLQP0144KA-A; Publisher: Altium Limited; PackageDescription: 144-Pin Plastic Low Profile QFP, 20 x 20 x 1.4 mm Body, 0.5 mm Pitch; Code_JEITA: P-LQFP144-20x20-0.50; Code_IPC: SQFP50P2200X2200-144; ComponentLink1Description: Manufacturer Link; ComponentLink1URL: http://www.renesas.com/fmwk.jsp?cnt=sh7080_root.jsp&fp=/products/mpumcu/superh_family/sh7080_series/sh7080_group/; ComponentLink2Description: Datasheet; ComponentLink2URL: http://documentation.renesas.com/eng/products/mpumcu/rej09b0181_sh7080.pdf; ComponentLink3Description: Packaging Specification; ComponentLink3URL: http://sg.renesas.com/media/products/common_info/package/pdf/ic/code/plqp0144ka_a.pdf
footprint PLQP0144KA-A_N (Shrink QFP, 144-Leads, Body 20x20mm, Pitch 0.5mm, IPC Medium Density)
footprint PLQP0144KA-A_L (Shrink QFP, 144-Leads, Body 20x20mm, Pitch 0.5mm, IPC High Density)
footprint PLQP0144KA-A_M (Shrink QFP, 144-Leads, Body 20x20mm, Pitch 0.5mm, IPC Low Density)
part A pins: 1 PA23/~{WRHH}/~{ICIOWR}/~{AH}/DQMUU/TIC5W (io), 2 PE14/~{WRHH}/~{ICIOWR}/~{AH}/DQMUU/DACK0/TIOC4C (io), 3 PA22/~{WRHL}/~{ICIORD}/DQMUL/TIC5V (io), 4 PA21/~{CS5}/~{CE1A}/~{CASU}/TIC5U (io), 5 PE15/CKE/DACK1/TIOC4D/~{IRQOUT} (io), 7 PC0/A0 (io), 8 PC1/A1 (io), 9 PC2/A2 (io), 10 PC3/A3 (io), 11 PC4/A4 (io), 13 PC5/A5 (io), 15 PC6/A6 (io), 16 PC7/A7 (io), 17 PC8/A8 (io), 18 PC9/A9 (io), 19 PC10/A10 (io), 20 PC11/A11 (io), 21 PC12/A12 (io), 22 PC13/A13 (io), 23 PC14/A14 (io), 24 PC15/A15 (io), 25 PB0/A16/TIC5WS (io), 27 PB1/A17/TIC5W (io), 29 PA20/~{CS4}/~{RASU} (io), 30 PA19/~{BACK}/TEND1 (io), 31 PB2/IRQ0/~{POE0}/SCL (io), 32 PB3/IRQ1/~{POE1}/SDA (io), 33 PA18/~{BREQ}/TEND0 (io), 34 PB4/~{RASL}/IRQ2/~{POE2} (io), 36 PB5/~{CASL}/IRQ3/~{POE3} (io), 37 PB6/A18/~{BACK}/IRQ4/RXD0 (io), 38 PB7/A19/~{BREQ}/IRQ5/TXD0 (io), 39 PB8/A20/~{WAIT}/IRQ6/SCK0 (io), 41 PB9/A21/IRQ7/~{ADTRG}/~{POE8} (io), 43 PA14/~{RD} (io), 44 ~{WDTOVF} (out), 45 PD31/D31/TIOC3AS/~{ADTRG} (io), 46 PD30/D30/TIOC3CS/~{IRQOUT} (io), 47 PA13/~{WRH}/~{WE}/DQMLU/~{POE7} (io), 48 PA12/~{WRL}/DQMLL/~{POE6} (io), 49 PA11/~{CS1}/~{POE5} (io), 50 PA10/~{CS0}/~{POE4} (io), 51 PA9/~{FRAME}/CKE/IRQ3/TCLKD (io), 52 PA8/RDWR/IRQ2/TCLKC (io), 53 PA7/~{CS3}/TCLKB (io), 54 PA6/~{CS2}/TCLKA (io), 56 PD29/D29/~{CS3}/TIOC3BS (io), 57 PD28/D28/~{CS2}/TIOC3DS (io), 58 PD27/D27/DACK1/TIOC4AS (io), 59 PD26/D26/DACK0/TIOC4BS (io), 60 PD25/D25/DREQ1/TIOC4CS (io), 62 PD24/D24/DREQ0/TIOC4DS (io), 64 PD23/D23/IRQ7/~{AUDSYNC} (io), 65 PD22/D22/IRQ6/TIC5US/AUDCK (io), 66 PD21/D21/IRQ5/TIC5VS (io), 67 PD20/D20/IRQ4/TIC5WS (io), 68 PD19/D19/IRQ3/~{POE7}/AUDATA3 (io), 69 PD18/D18/IRQ2/~{POE6}/AUDATA2 (io), 70 PD17/D17/IRQ1/~{POE5}/AUDATA1 (io), 72 PD16/D16/IRQ0/~{POE4}/AUDATA0 (io), 73 PD15/D15/TIOC4DS (io), 74 PD14/D14/TIOC4CS (io), 75 PD13/D13/TIOC4BS (io), 76 PD12/D12/TIOC4AS (io), 78 PD11/D11/TIOC3DS (io), 80 PD10/D10/TIOC3CS (io), 81 PD9/D9/TIOC3BS (io), 82 PD8/D8/TIOC3AS (io), 83 PD7/D7/TIC5WS (io), 84 PD6/D6/TIC5VS (io), 86 PD5/D5/TIC5US (io), 88 PD4/D4/TIC5W (io), 89 PD3/D3/TIC5V (io), 90 PD2/D2/TIC5U (io), 91 PD1/D1 (io), 92 PD0/D0 (io), 94 XTAL (in), 95 MD1 (in), 96 EXTAL (in), 97 MD0 (in), 98 NMI (in), 100 PA16/~{WRHH}/~{ICIOWR}/~{AH}/DQMUU/CKE/DREQ2/~{AUDSYNC} (io), 101 PA17/~{WAIT}/DACK2 (io), 102 PA24/~{CE2A}/DREQ3 (io), 103 PA25/~{CE2B}/DACK3/~{POE8} (io), 107 PA15/CK (io), 108 ~{RES} (in), 109 PE0/DREQ0/TIOC0A/AUDCK (io), 110 PE1/TEND0/TIOC0B (io), 111 PE2/DREQ1/TIOC0C (io), 113 PE3/TEND1/TIOC0D/AUDATA3 (io), 114 PE4/~{IOIS16}/TIOC1A/RXD3/AUDATA2 (io), 115 PE5/~{CS6}/~{CE1B}/TIOC1B/TXD3/AUDATA1 (io), 116 PE6/~{CS7}/TIOC2A/SCK3/AUDATA0 (io), 118 PF0/AN0 (io), 119 PF1/AN1 (io), 120 PF2/AN2 (io), 121 PF3/AN3 (io), 122 PF4/AN4 (io), 123 PF5/AN5 (io), 125 PF6/AN6 (io), 126 PF7/AN7 (io), 127 AVREF (in), 130 PA0/~{CS4}/RXD0 (io), 131 PA1/~{CS5}/~{CE1A}/TXD0 (io), 132 PA2/A25/DREQ0/IRQ0/SCK0 (io), 133 PA3/A24/RXD1 (io), 134 PA4/A23/TXD1 (io), 136 PA5/A22/DREQ1/IRQ1/SCK1 (io), 137 PE7/~{BS}/TIOC2B/~{UBCTRG}/RXD2/SSI (io), 138 PE8/TIOC3A/SCK2/SSCK/TMS (io), 139 PE9/TIOC3B/SCK3/~{RTS3}/~{TRST} (io), 140 PE10/TIOC3C/TXD2/SSO/TDI (io), 142 PE11/TIOC3D/RXD3/~{CTS3}/TDO (io), 143 PE12/TIOC4A/TXD3/~{SCS}/TCK (io), 144 PE13/TIOC4B/~{MRES}/~{ASEBRKAK}/~{ASEBRK} (io)
part B pins: 12 VCC (power), 26 VCC (power), 40 VCC (power), 42 VCC (~{ASEMD0}) (power), 61 VCL (power), 63 VCC (power), 77 VCC (power), 85 VCC (power), 104 VCC (power), 105 VCL (power), 112 VCC (power), 128 AVCC (power), 135 VCC (power), 141 VCL (power)
part C pins: 6 VSS (power), 14 VSS (power), 28 VSS (power), 35 VSS (power), 55 VSS (power), 71 VSS (power), 79 VSS (power), 87 VSS (power), 93 VSS (power), 99 VSS (FWE) (power), 106 PLLVSS (power), 117 VSS (power), 124 AVSS (power), 129 VSS (power)

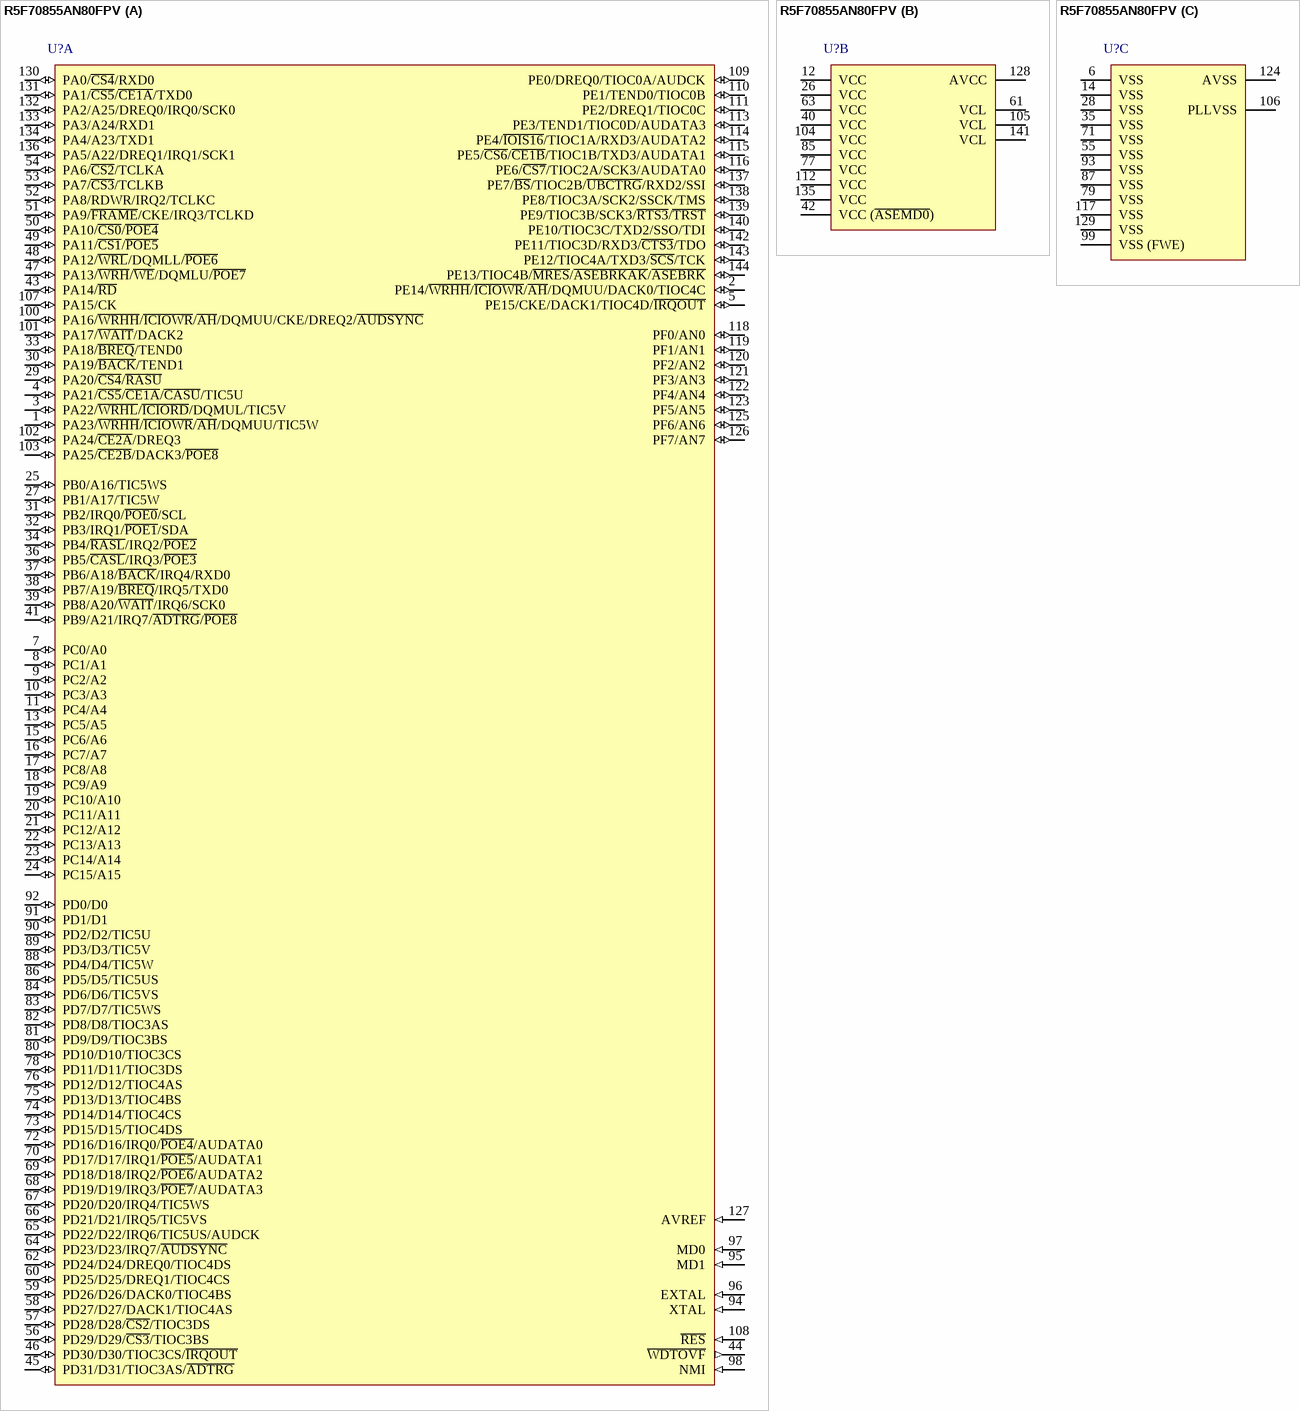
[diagram p137: symbol R5F70855AN80FPV]

## R5F70855AN80FPV
designator U?
32-Bit RISC Microcomputer, SH7080 Series, SH-2 core, 80MHz, 512K ROM, 32K RAM, 144-pin PLQFP, -20 to 85°C; Published: 28-Aug-2009; LatestRevisionDate: 15-Feb-2010; LatestRevisionNote: Updated to datasheet revision 4.00 Dec-2009.; DatasheetVersion: Rev.4.00, Dec-2009; PackageVersion: Sep-2005; PackageReference: PLQP0144KA-A; Publisher: Altium Limited; PackageDescription: 144-Pin Plastic Low Profile QFP, 20 x 20 x 1.4 mm Body, 0.5 mm Pitch; Code_JEITA: P-LQFP144-20x20-0.50; Code_IPC: SQFP50P2200X2200-144; ComponentLink1Description: Manufacturer Link; ComponentLink1URL: http://www.renesas.com/fmwk.jsp?cnt=sh7080_root.jsp&fp=/products/mpumcu/superh_family/sh7080_series/sh7080_group/; ComponentLink2Description: Datasheet; ComponentLink2URL: http://documentation.renesas.com/eng/products/mpumcu/rej09b0181_sh7080.pdf; ComponentLink3Description: Packaging Specification; ComponentLink3URL: http://sg.renesas.com/media/products/common_info/package/pdf/ic/code/plqp0144ka_a.pdf
footprint PLQP0144KA-A_N (Shrink QFP, 144-Leads, Body 20x20mm, Pitch 0.5mm, IPC Medium Density)
footprint PLQP0144KA-A_L (Shrink QFP, 144-Leads, Body 20x20mm, Pitch 0.5mm, IPC High Density)
footprint PLQP0144KA-A_M (Shrink QFP, 144-Leads, Body 20x20mm, Pitch 0.5mm, IPC Low Density)
part A pins: 1 PA23/~{WRHH}/~{ICIOWR}/~{AH}/DQMUU/TIC5W (io), 2 PE14/~{WRHH}/~{ICIOWR}/~{AH}/DQMUU/DACK0/TIOC4C (io), 3 PA22/~{WRHL}/~{ICIORD}/DQMUL/TIC5V (io), 4 PA21/~{CS5}/~{CE1A}/~{CASU}/TIC5U (io), 5 PE15/CKE/DACK1/TIOC4D/~{IRQOUT} (io), 7 PC0/A0 (io), 8 PC1/A1 (io), 9 PC2/A2 (io), 10 PC3/A3 (io), 11 PC4/A4 (io), 13 PC5/A5 (io), 15 PC6/A6 (io), 16 PC7/A7 (io), 17 PC8/A8 (io), 18 PC9/A9 (io), 19 PC10/A10 (io), 20 PC11/A11 (io), 21 PC12/A12 (io), 22 PC13/A13 (io), 23 PC14/A14 (io), 24 PC15/A15 (io), 25 PB0/A16/TIC5WS (io), 27 PB1/A17/TIC5W (io), 29 PA20/~{CS4}/~{RASU} (io), 30 PA19/~{BACK}/TEND1 (io), 31 PB2/IRQ0/~{POE0}/SCL (io), 32 PB3/IRQ1/~{POE1}/SDA (io), 33 PA18/~{BREQ}/TEND0 (io), 34 PB4/~{RASL}/IRQ2/~{POE2} (io), 36 PB5/~{CASL}/IRQ3/~{POE3} (io), 37 PB6/A18/~{BACK}/IRQ4/RXD0 (io), 38 PB7/A19/~{BREQ}/IRQ5/TXD0 (io), 39 PB8/A20/~{WAIT}/IRQ6/SCK0 (io), 41 PB9/A21/IRQ7/~{ADTRG}/~{POE8} (io), 43 PA14/~{RD} (io), 44 ~{WDTOVF} (out), 45 PD31/D31/TIOC3AS/~{ADTRG} (io), 46 PD30/D30/TIOC3CS/~{IRQOUT} (io), 47 PA13/~{WRH}/~{WE}/DQMLU/~{POE7} (io), 48 PA12/~{WRL}/DQMLL/~{POE6} (io), 49 PA11/~{CS1}/~{POE5} (io), 50 PA10/~{CS0}/~{POE4} (io), 51 PA9/~{FRAME}/CKE/IRQ3/TCLKD (io), 52 PA8/RDWR/IRQ2/TCLKC (io), 53 PA7/~{CS3}/TCLKB (io), 54 PA6/~{CS2}/TCLKA (io), 56 PD29/D29/~{CS3}/TIOC3BS (io), 57 PD28/D28/~{CS2}/TIOC3DS (io), 58 PD27/D27/DACK1/TIOC4AS (io), 59 PD26/D26/DACK0/TIOC4BS (io), 60 PD25/D25/DREQ1/TIOC4CS (io), 62 PD24/D24/DREQ0/TIOC4DS (io), 64 PD23/D23/IRQ7/~{AUDSYNC} (io), 65 PD22/D22/IRQ6/TIC5US/AUDCK (io), 66 PD21/D21/IRQ5/TIC5VS (io), 67 PD20/D20/IRQ4/TIC5WS (io), 68 PD19/D19/IRQ3/~{POE7}/AUDATA3 (io), 69 PD18/D18/IRQ2/~{POE6}/AUDATA2 (io), 70 PD17/D17/IRQ1/~{POE5}/AUDATA1 (io), 72 PD16/D16/IRQ0/~{POE4}/AUDATA0 (io), 73 PD15/D15/TIOC4DS (io), 74 PD14/D14/TIOC4CS (io), 75 PD13/D13/TIOC4BS (io), 76 PD12/D12/TIOC4AS (io), 78 PD11/D11/TIOC3DS (io), 80 PD10/D10/TIOC3CS (io), 81 PD9/D9/TIOC3BS (io), 82 PD8/D8/TIOC3AS (io), 83 PD7/D7/TIC5WS (io), 84 PD6/D6/TIC5VS (io), 86 PD5/D5/TIC5US (io), 88 PD4/D4/TIC5W (io), 89 PD3/D3/TIC5V (io), 90 PD2/D2/TIC5U (io), 91 PD1/D1 (io), 92 PD0/D0 (io), 94 XTAL (in), 95 MD1 (in), 96 EXTAL (in), 97 MD0 (in), 98 NMI (in), 100 PA16/~{WRHH}/~{ICIOWR}/~{AH}/DQMUU/CKE/DREQ2/~{AUDSYNC} (io), 101 PA17/~{WAIT}/DACK2 (io), 102 PA24/~{CE2A}/DREQ3 (io), 103 PA25/~{CE2B}/DACK3/~{POE8} (io), 107 PA15/CK (io), 108 ~{RES} (in), 109 PE0/DREQ0/TIOC0A/AUDCK (io), 110 PE1/TEND0/TIOC0B (io), 111 PE2/DREQ1/TIOC0C (io), 113 PE3/TEND1/TIOC0D/AUDATA3 (io), 114 PE4/~{IOIS16}/TIOC1A/RXD3/AUDATA2 (io), 115 PE5/~{CS6}/~{CE1B}/TIOC1B/TXD3/AUDATA1 (io), 116 PE6/~{CS7}/TIOC2A/SCK3/AUDATA0 (io), 118 PF0/AN0 (io), 119 PF1/AN1 (io), 120 PF2/AN2 (io), 121 PF3/AN3 (io), 122 PF4/AN4 (io), 123 PF5/AN5 (io), 125 PF6/AN6 (io), 126 PF7/AN7 (io), 127 AVREF (in), 130 PA0/~{CS4}/RXD0 (io), 131 PA1/~{CS5}/~{CE1A}/TXD0 (io), 132 PA2/A25/DREQ0/IRQ0/SCK0 (io), 133 PA3/A24/RXD1 (io), 134 PA4/A23/TXD1 (io), 136 PA5/A22/DREQ1/IRQ1/SCK1 (io), 137 PE7/~{BS}/TIOC2B/~{UBCTRG}/RXD2/SSI (io), 138 PE8/TIOC3A/SCK2/SSCK/TMS (io), 139 PE9/TIOC3B/SCK3/~{RTS3}/~{TRST} (io), 140 PE10/TIOC3C/TXD2/SSO/TDI (io), 142 PE11/TIOC3D/RXD3/~{CTS3}/TDO (io), 143 PE12/TIOC4A/TXD3/~{SCS}/TCK (io), 144 PE13/TIOC4B/~{MRES}/~{ASEBRKAK}/~{ASEBRK} (io)
part B pins: 12 VCC (power), 26 VCC (power), 40 VCC (power), 42 VCC (~{ASEMD0}) (power), 61 VCL (power), 63 VCC (power), 77 VCC (power), 85 VCC (power), 104 VCC (power), 105 VCL (power), 112 VCC (power), 128 AVCC (power), 135 VCC (power), 141 VCL (power)
part C pins: 6 VSS (power), 14 VSS (power), 28 VSS (power), 35 VSS (power), 55 VSS (power), 71 VSS (power), 79 VSS (power), 87 VSS (power), 93 VSS (power), 99 VSS (FWE) (power), 106 PLLVSS (power), 117 VSS (power), 124 AVSS (power), 129 VSS (power)

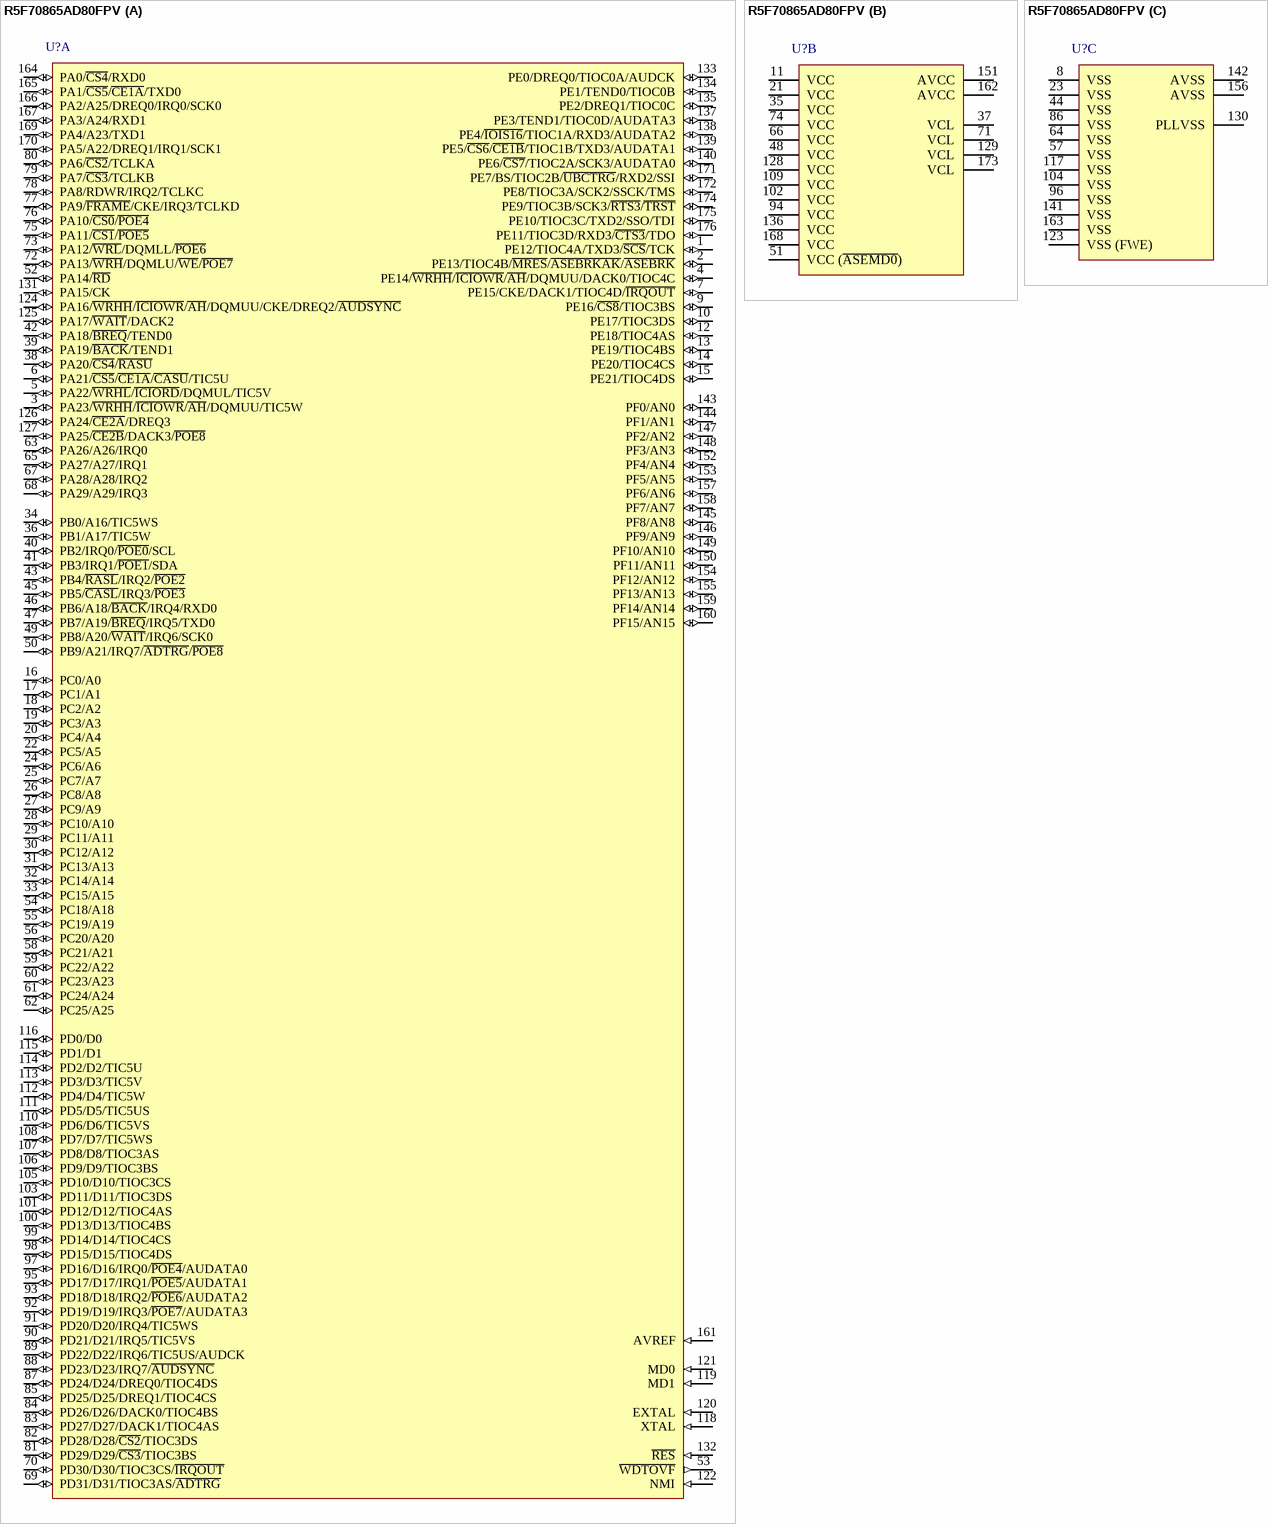
[diagram p138: symbol R5F70865AD80FPV]

## R5F70865AD80FPV
designator U?
32-Bit RISC Microcomputer, SH7080 Series, SH-2 core, 80MHz, 512K ROM, 32K RAM, 24x24mm 176-pin PLQFP, -40 to 85°C; Published: 28-Aug-2009; LatestRevisionDate: 15-Feb-2010; LatestRevisionNote: Updated to datasheet revision 4.00 Dec-2009.; DatasheetVersion: Rev.4.00, Dec-2009; PackageVersion: Oct-2005; PackageReference: PLQP0176KB-A; Publisher: Altium Limited; PackageDescription: 176-Pin Plastic Low Profile QFP, 24 x 24 x 1.4 mm Body, 0.5 mm Pitch; Code_JEITA: P-LQFP176-24x24-0.50; ComponentLink1Description: Manufacturer Link; ComponentLink1URL: http://www.renesas.com/fmwk.jsp?cnt=sh7080_root.jsp&fp=/products/mpumcu/superh_family/sh7080_series/sh7080_group/; ComponentLink2Description: Datasheet; ComponentLink2URL: http://documentation.renesas.com/eng/products/mpumcu/rej09b0181_sh7080.pdf; ComponentLink3Description: Packaging Specification; ComponentLink3URL: http://sg.renesas.com/media/products/common_info/package/pdf/ic/code/plqp0176kb_a.pdf
footprint PLQP0176KB-A_N (Shrink QFP, 176-Leads, Body 24x24mm, Pitch 0.5mm, IPC Medium Density)
footprint PLQP0176KB-A_L (Shrink QFP, 176-Leads, Body 24x24mm, Pitch 0.5mm, IPC High Density)
footprint PLQP0176KB-A_M (Shrink QFP, 176-Leads, Body 24x24mm, Pitch 0.5mm, IPC Low Density)
part A pins: 1 PE12/TIOC4A/TXD3/~{SCS}/TCK (io), 2 PE13/TIOC4B/~{MRES}/~{ASEBRKAK}/~{ASEBRK} (io), 3 PA23/~{WRHH}/~{ICIOWR}/~{AH}/DQMUU/TIC5W (io), 4 PE14/~{WRHH}/~{ICIOWR}/~{AH}/DQMUU/DACK0/TIOC4C (io), 5 PA22/~{WRHL}/~{ICIORD}/DQMUL/TIC5V (io), 6 PA21/~{CS5}/~{CE1A}/~{CASU}/TIC5U (io), 7 PE15/CKE/DACK1/TIOC4D/~{IRQOUT} (io), 9 PE16/~{CS8}/TIOC3BS (io), 10 PE17/TIOC3DS (io), 12 PE18/TIOC4AS (io), 13 PE19/TIOC4BS (io), 14 PE20/TIOC4CS (io), 15 PE21/TIOC4DS (io), 16 PC0/A0 (io), 17 PC1/A1 (io), 18 PC2/A2 (io), 19 PC3/A3 (io), 20 PC4/A4 (io), 22 PC5/A5 (io), 24 PC6/A6 (io), 25 PC7/A7 (io), 26 PC8/A8 (io), 27 PC9/A9 (io), 28 PC10/A10 (io), 29 PC11/A11 (io), 30 PC12/A12 (io), 31 PC13/A13 (io), 32 PC14/A14 (io), 33 PC15/A15 (io), 34 PB0/A16/TIC5WS (io), 36 PB1/A17/TIC5W (io), 38 PA20/~{CS4}/~{RASU} (io), 39 PA19/~{BACK}/TEND1 (io), 40 PB2/IRQ0/~{POE0}/SCL (io), 41 PB3/IRQ1/~{POE1}/SDA (io), 42 PA18/~{BREQ}/TEND0 (io), 43 PB4/~{RASL}/IRQ2/~{POE2} (io), 45 PB5/~{CASL}/IRQ3/~{POE3} (io), 46 PB6/A18/~{BACK}/IRQ4/RXD0 (io), 47 PB7/A19/~{BREQ}/IRQ5/TXD0 (io), 49 PB8/A20/~{WAIT}/IRQ6/SCK0 (io), 50 PB9/A21/IRQ7/~{ADTRG}/~{POE8} (io), 52 PA14/~{RD} (io), 53 ~{WDTOVF} (out), 54 PC18/A18 (io), 55 PC19/A19 (io), 56 PC20/A20 (io), 58 PC21/A21 (io), 59 PC22/A22 (io), 60 PC23/A23 (io), 61 PC24/A24 (io), 62 PC25/A25 (io), 63 PA26/A26/IRQ0 (io), 65 PA27/A27/IRQ1 (io), 67 PA28/A28/IRQ2 (io), 68 PA29/A29/IRQ3 (io), 69 PD31/D31/TIOC3AS/~{ADTRG} (io), 70 PD30/D30/TIOC3CS/~{IRQOUT} (io), 72 PA13/~{WRH}/DQMLU/~{WE}/~{POE7} (io), 73 PA12/~{WRL}/DQMLL/~{POE6} (io), 75 PA11/~{CS1}/~{POE5} (io), 76 PA10/~{CS0}/~{POE4} (io), 77 PA9/~{FRAME}/CKE/IRQ3/TCLKD (io), 78 PA8/RDWR/IRQ2/TCLKC (io), 79 PA7/~{CS3}/TCLKB (io), 80 PA6/~{CS2}/TCLKA (io), 81 PD29/D29/~{CS3}/TIOC3BS (io), 82 PD28/D28/~{CS2}/TIOC3DS (io), 83 PD27/D27/DACK1/TIOC4AS (io), 84 PD26/D26/DACK0/TIOC4BS (io), 85 PD25/D25/DREQ1/TIOC4CS (io), 87 PD24/D24/DREQ0/TIOC4DS (io), 88 PD23/D23/IRQ7/~{AUDSYNC} (io), 89 PD22/D22/IRQ6/TIC5US/AUDCK (io), 90 PD21/D21/IRQ5/TIC5VS (io), 91 PD20/D20/IRQ4/TIC5WS (io), 92 PD19/D19/IRQ3/~{POE7}/AUDATA3 (io), 93 PD18/D18/IRQ2/~{POE6}/AUDATA2 (io), 95 PD17/D17/IRQ1/~{POE5}/AUDATA1 (io), 97 PD16/D16/IRQ0/~{POE4}/AUDATA0 (io), 98 PD15/D15/TIOC4DS (io), 99 PD14/D14/TIOC4CS (io), 100 PD13/D13/TIOC4BS (io), 101 PD12/D12/TIOC4AS (io), 103 PD11/D11/TIOC3DS (io), 105 PD10/D10/TIOC3CS (io), 106 PD9/D9/TIOC3BS (io), 107 PD8/D8/TIOC3AS (io), 108 PD7/D7/TIC5WS (io), 110 PD6/D6/TIC5VS (io), 111 PD5/D5/TIC5US (io), 112 PD4/D4/TIC5W (io), 113 PD3/D3/TIC5V (io), 114 PD2/D2/TIC5U (io), 115 PD1/D1 (io), 116 PD0/D0 (io), 118 XTAL (in), 119 MD1 (in), 120 EXTAL (in), 121 MD0 (in), 122 NMI (in), 124 PA16/~{WRHH}/~{ICIOWR}/~{AH}/DQMUU/CKE/DREQ2/~{AUDSYNC} (io), 125 PA17/~{WAIT}/DACK2 (io), 126 PA24/~{CE2A}/DREQ3 (io), 127 PA25/~{CE2B}/DACK3/~{POE8} (io), 131 PA15/CK (io), 132 ~{RES} (in), 133 PE0/DREQ0/TIOC0A/AUDCK (io), 134 PE1/TEND0/TIOC0B (io), 135 PE2/DREQ1/TIOC0C (io), 137 PE3/TEND1/TIOC0D/AUDATA3 (io), 138 PE4/~{IOIS16}/TIOC1A/RXD3/AUDATA2 (io), 139 PE5/~{CS6}/~{CE1B}/TIOC1B/TXD3/AUDATA1 (io), 140 PE6/~{CS7}/TIOC2A/SCK3/AUDATA0 (io), 143 PF0/AN0 (io), 144 PF1/AN1 (io), 145 PF8/AN8 (io), 146 PF9/AN9 (io), 147 PF2/AN2 (io), 148 PF3/AN3 (io), 149 PF10/AN10 (io), 150 PF11/AN11 (io), 152 PF4/AN4 (io), 153 PF5/AN5 (io), 154 PF12/AN12 (io), 155 PF13/AN13 (io), 157 PF6/AN6 (io), 158 PF7/AN7 (io), 159 PF14/AN14 (io), 160 PF15/AN15 (io), 161 AVREF (in), 164 PA0/~{CS4}/RXD0 (io), 165 PA1/~{CS5}/~{CE1A}/TXD0 (io), 166 PA2/A25/DREQ0/IRQ0/SCK0 (io), 167 PA3/A24/RXD1 (io), 169 PA4/A23/TXD1 (io), 170 PA5/A22/DREQ1/IRQ1/SCK1 (io), 171 PE7/BS/TIOC2B/~{UBCTRG}/RXD2/SSI (io), 172 PE8/TIOC3A/SCK2/SSCK/TMS (io), 174 PE9/TIOC3B/SCK3/~{RTS3}/~{TRST} (io), 175 PE10/TIOC3C/TXD2/SSO/TDI (io), 176 PE11/TIOC3D/RXD3/~{CTS3}/TDO (io)
part B pins: 11 VCC (power), 21 VCC (power), 35 VCC (power), 37 VCL (power), 48 VCC (power), 51 VCC (~{ASEMD0}) (power), 66 VCC (power), 71 VCL (power), 74 VCC (power), 94 VCC (power), 102 VCC (power), 109 VCC (power), 128 VCC (power), 129 VCL (power), 136 VCC (power), 151 AVCC (power), 162 AVCC (power), 168 VCC (power), 173 VCL (power)
part C pins: 8 VSS (power), 23 VSS (power), 44 VSS (power), 57 VSS (power), 64 VSS (power), 86 VSS (power), 96 VSS (power), 104 VSS (power), 117 VSS (power), 123 VSS (FWE) (power), 130 PLLVSS (power), 141 VSS (power), 142 AVSS (power), 156 AVSS (power), 163 VSS (power)

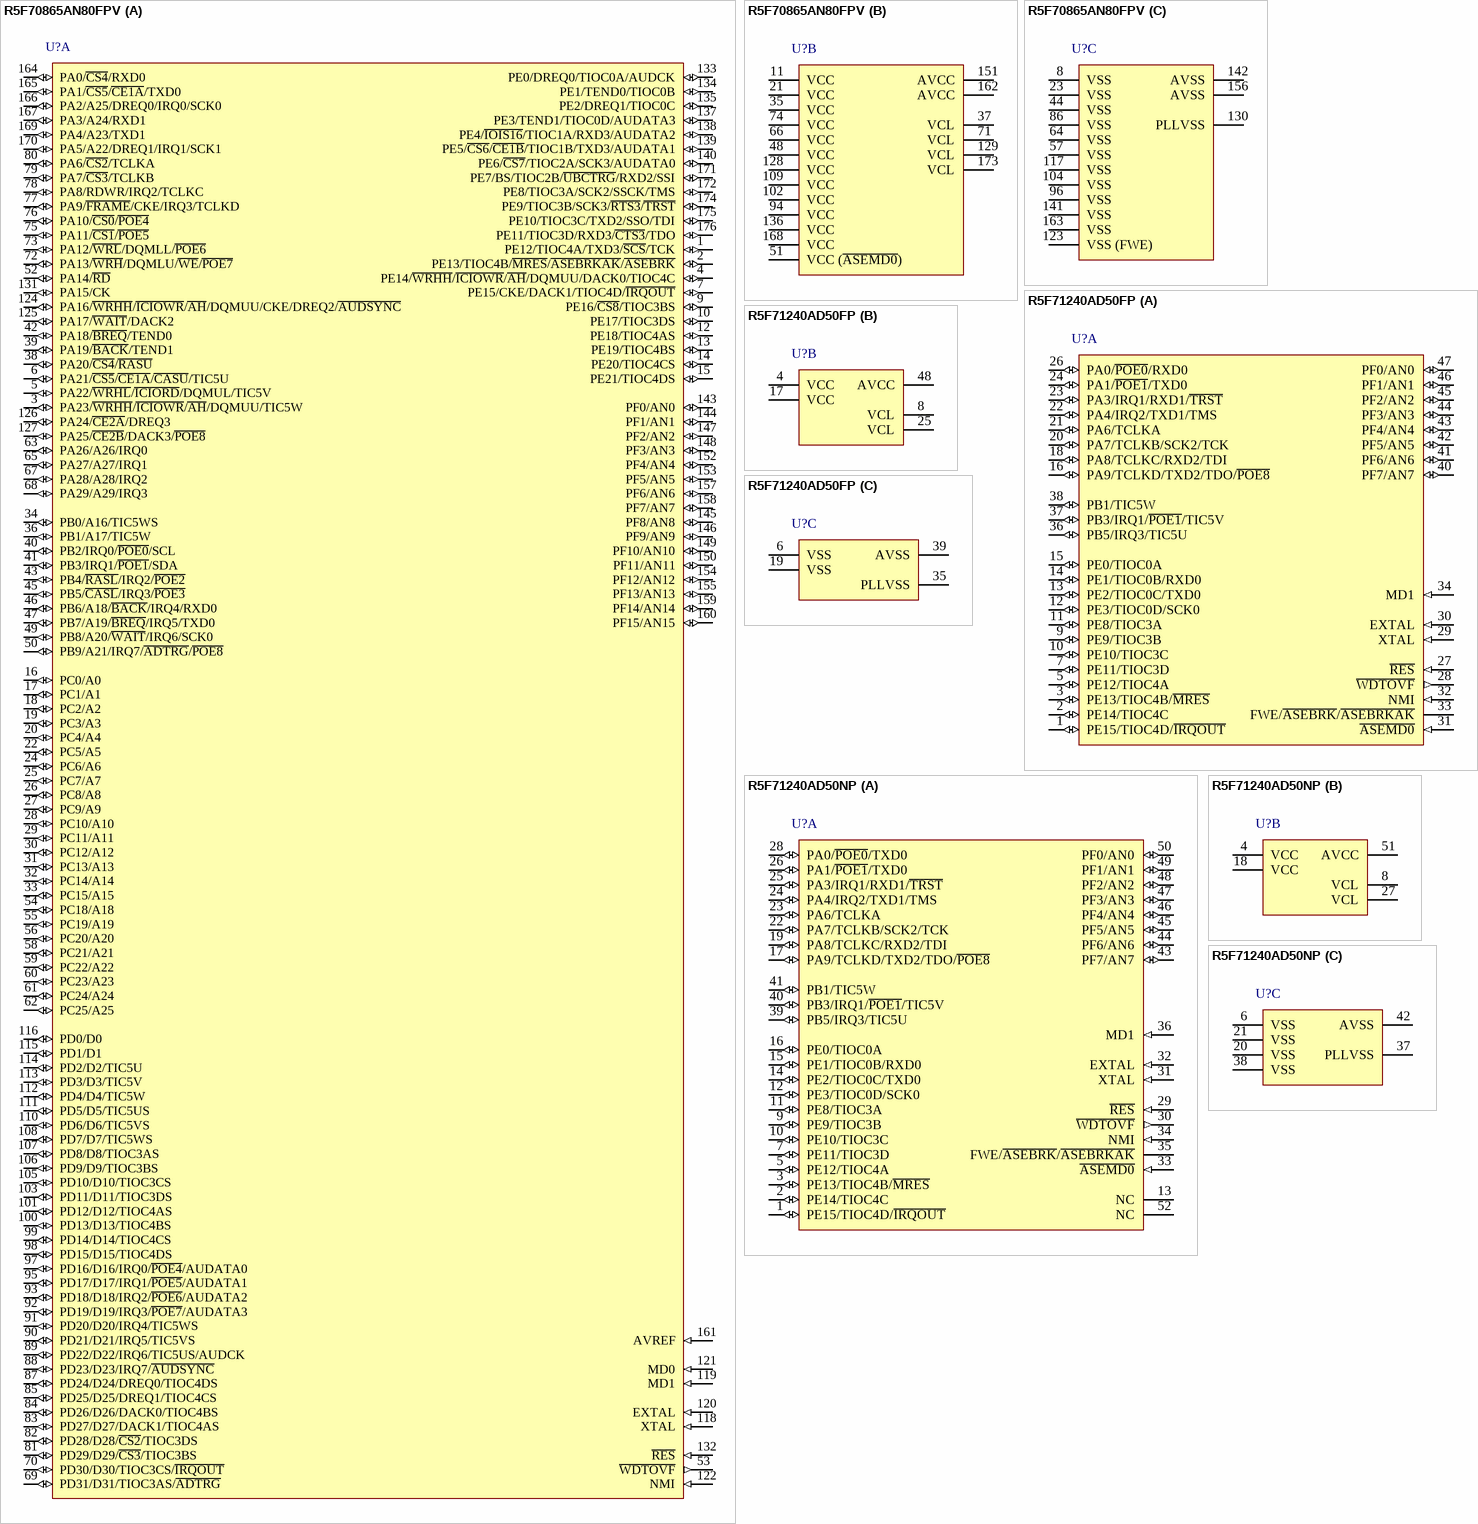
[diagram p139: symbols R5F70865AN80FPV to R5F71240AD50NP]

## R5F70865AN80FPV
designator U?
32-Bit RISC Microcomputer, SH7080 Series, SH-2 core, 80MHz, 512K ROM, 32K RAM, 24x24mm 176-pin PLQFP, -20 to 85°C; Published: 28-Aug-2009; LatestRevisionDate: 15-Feb-2010; LatestRevisionNote: Updated to datasheet revision 4.00 Dec-2009.; DatasheetVersion: Rev.4.00, Dec-2009; PackageVersion: Oct-2005; PackageReference: PLQP0176KB-A; Publisher: Altium Limited; PackageDescription: 176-Pin Plastic Low Profile QFP, 24 x 24 x 1.4 mm Body, 0.5 mm Pitch; Code_JEITA: P-LQFP176-24x24-0.50; ComponentLink1Description: Manufacturer Link; ComponentLink1URL: http://www.renesas.com/fmwk.jsp?cnt=sh7080_root.jsp&fp=/products/mpumcu/superh_family/sh7080_series/sh7080_group/; ComponentLink2Description: Datasheet; ComponentLink2URL: http://documentation.renesas.com/eng/products/mpumcu/rej09b0181_sh7080.pdf; ComponentLink3Description: Packaging Specification; ComponentLink3URL: http://sg.renesas.com/media/products/common_info/package/pdf/ic/code/plqp0176kb_a.pdf
footprint PLQP0176KB-A_N (Shrink QFP, 176-Leads, Body 24x24mm, Pitch 0.5mm, IPC Medium Density)
footprint PLQP0176KB-A_L (Shrink QFP, 176-Leads, Body 24x24mm, Pitch 0.5mm, IPC High Density)
footprint PLQP0176KB-A_M (Shrink QFP, 176-Leads, Body 24x24mm, Pitch 0.5mm, IPC Low Density)
part A pins: 1 PE12/TIOC4A/TXD3/~{SCS}/TCK (io), 2 PE13/TIOC4B/~{MRES}/~{ASEBRKAK}/~{ASEBRK} (io), 3 PA23/~{WRHH}/~{ICIOWR}/~{AH}/DQMUU/TIC5W (io), 4 PE14/~{WRHH}/~{ICIOWR}/~{AH}/DQMUU/DACK0/TIOC4C (io), 5 PA22/~{WRHL}/~{ICIORD}/DQMUL/TIC5V (io), 6 PA21/~{CS5}/~{CE1A}/~{CASU}/TIC5U (io), 7 PE15/CKE/DACK1/TIOC4D/~{IRQOUT} (io), 9 PE16/~{CS8}/TIOC3BS (io), 10 PE17/TIOC3DS (io), 12 PE18/TIOC4AS (io), 13 PE19/TIOC4BS (io), 14 PE20/TIOC4CS (io), 15 PE21/TIOC4DS (io), 16 PC0/A0 (io), 17 PC1/A1 (io), 18 PC2/A2 (io), 19 PC3/A3 (io), 20 PC4/A4 (io), 22 PC5/A5 (io), 24 PC6/A6 (io), 25 PC7/A7 (io), 26 PC8/A8 (io), 27 PC9/A9 (io), 28 PC10/A10 (io), 29 PC11/A11 (io), 30 PC12/A12 (io), 31 PC13/A13 (io), 32 PC14/A14 (io), 33 PC15/A15 (io), 34 PB0/A16/TIC5WS (io), 36 PB1/A17/TIC5W (io), 38 PA20/~{CS4}/~{RASU} (io), 39 PA19/~{BACK}/TEND1 (io), 40 PB2/IRQ0/~{POE0}/SCL (io), 41 PB3/IRQ1/~{POE1}/SDA (io), 42 PA18/~{BREQ}/TEND0 (io), 43 PB4/~{RASL}/IRQ2/~{POE2} (io), 45 PB5/~{CASL}/IRQ3/~{POE3} (io), 46 PB6/A18/~{BACK}/IRQ4/RXD0 (io), 47 PB7/A19/~{BREQ}/IRQ5/TXD0 (io), 49 PB8/A20/~{WAIT}/IRQ6/SCK0 (io), 50 PB9/A21/IRQ7/~{ADTRG}/~{POE8} (io), 52 PA14/~{RD} (io), 53 ~{WDTOVF} (out), 54 PC18/A18 (io), 55 PC19/A19 (io), 56 PC20/A20 (io), 58 PC21/A21 (io), 59 PC22/A22 (io), 60 PC23/A23 (io), 61 PC24/A24 (io), 62 PC25/A25 (io), 63 PA26/A26/IRQ0 (io), 65 PA27/A27/IRQ1 (io), 67 PA28/A28/IRQ2 (io), 68 PA29/A29/IRQ3 (io), 69 PD31/D31/TIOC3AS/~{ADTRG} (io), 70 PD30/D30/TIOC3CS/~{IRQOUT} (io), 72 PA13/~{WRH}/DQMLU/~{WE}/~{POE7} (io), 73 PA12/~{WRL}/DQMLL/~{POE6} (io), 75 PA11/~{CS1}/~{POE5} (io), 76 PA10/~{CS0}/~{POE4} (io), 77 PA9/~{FRAME}/CKE/IRQ3/TCLKD (io), 78 PA8/RDWR/IRQ2/TCLKC (io), 79 PA7/~{CS3}/TCLKB (io), 80 PA6/~{CS2}/TCLKA (io), 81 PD29/D29/~{CS3}/TIOC3BS (io), 82 PD28/D28/~{CS2}/TIOC3DS (io), 83 PD27/D27/DACK1/TIOC4AS (io), 84 PD26/D26/DACK0/TIOC4BS (io), 85 PD25/D25/DREQ1/TIOC4CS (io), 87 PD24/D24/DREQ0/TIOC4DS (io), 88 PD23/D23/IRQ7/~{AUDSYNC} (io), 89 PD22/D22/IRQ6/TIC5US/AUDCK (io), 90 PD21/D21/IRQ5/TIC5VS (io), 91 PD20/D20/IRQ4/TIC5WS (io), 92 PD19/D19/IRQ3/~{POE7}/AUDATA3 (io), 93 PD18/D18/IRQ2/~{POE6}/AUDATA2 (io), 95 PD17/D17/IRQ1/~{POE5}/AUDATA1 (io), 97 PD16/D16/IRQ0/~{POE4}/AUDATA0 (io), 98 PD15/D15/TIOC4DS (io), 99 PD14/D14/TIOC4CS (io), 100 PD13/D13/TIOC4BS (io), 101 PD12/D12/TIOC4AS (io), 103 PD11/D11/TIOC3DS (io), 105 PD10/D10/TIOC3CS (io), 106 PD9/D9/TIOC3BS (io), 107 PD8/D8/TIOC3AS (io), 108 PD7/D7/TIC5WS (io), 110 PD6/D6/TIC5VS (io), 111 PD5/D5/TIC5US (io), 112 PD4/D4/TIC5W (io), 113 PD3/D3/TIC5V (io), 114 PD2/D2/TIC5U (io), 115 PD1/D1 (io), 116 PD0/D0 (io), 118 XTAL (in), 119 MD1 (in), 120 EXTAL (in), 121 MD0 (in), 122 NMI (in), 124 PA16/~{WRHH}/~{ICIOWR}/~{AH}/DQMUU/CKE/DREQ2/~{AUDSYNC} (io), 125 PA17/~{WAIT}/DACK2 (io), 126 PA24/~{CE2A}/DREQ3 (io), 127 PA25/~{CE2B}/DACK3/~{POE8} (io), 131 PA15/CK (io), 132 ~{RES} (in), 133 PE0/DREQ0/TIOC0A/AUDCK (io), 134 PE1/TEND0/TIOC0B (io), 135 PE2/DREQ1/TIOC0C (io), 137 PE3/TEND1/TIOC0D/AUDATA3 (io), 138 PE4/~{IOIS16}/TIOC1A/RXD3/AUDATA2 (io), 139 PE5/~{CS6}/~{CE1B}/TIOC1B/TXD3/AUDATA1 (io), 140 PE6/~{CS7}/TIOC2A/SCK3/AUDATA0 (io), 143 PF0/AN0 (io), 144 PF1/AN1 (io), 145 PF8/AN8 (io), 146 PF9/AN9 (io), 147 PF2/AN2 (io), 148 PF3/AN3 (io), 149 PF10/AN10 (io), 150 PF11/AN11 (io), 152 PF4/AN4 (io), 153 PF5/AN5 (io), 154 PF12/AN12 (io), 155 PF13/AN13 (io), 157 PF6/AN6 (io), 158 PF7/AN7 (io), 159 PF14/AN14 (io), 160 PF15/AN15 (io), 161 AVREF (in), 164 PA0/~{CS4}/RXD0 (io), 165 PA1/~{CS5}/~{CE1A}/TXD0 (io), 166 PA2/A25/DREQ0/IRQ0/SCK0 (io), 167 PA3/A24/RXD1 (io), 169 PA4/A23/TXD1 (io), 170 PA5/A22/DREQ1/IRQ1/SCK1 (io), 171 PE7/BS/TIOC2B/~{UBCTRG}/RXD2/SSI (io), 172 PE8/TIOC3A/SCK2/SSCK/TMS (io), 174 PE9/TIOC3B/SCK3/~{RTS3}/~{TRST} (io), 175 PE10/TIOC3C/TXD2/SSO/TDI (io), 176 PE11/TIOC3D/RXD3/~{CTS3}/TDO (io)
part B pins: 11 VCC (power), 21 VCC (power), 35 VCC (power), 37 VCL (power), 48 VCC (power), 51 VCC (~{ASEMD0}) (power), 66 VCC (power), 71 VCL (power), 74 VCC (power), 94 VCC (power), 102 VCC (power), 109 VCC (power), 128 VCC (power), 129 VCL (power), 136 VCC (power), 151 AVCC (power), 162 AVCC (power), 168 VCC (power), 173 VCL (power)
part C pins: 8 VSS (power), 23 VSS (power), 44 VSS (power), 57 VSS (power), 64 VSS (power), 86 VSS (power), 96 VSS (power), 104 VSS (power), 117 VSS (power), 123 VSS (FWE) (power), 130 PLLVSS (power), 141 VSS (power), 142 AVSS (power), 156 AVSS (power), 163 VSS (power)

## R5F71240AD50FP
designator U?
32-Bit RISC Microcomputer, SH7125 Series, SH-2 core, 50MHz, 16K ROM, 4K RAM, PLQP0048JA-A (FP-48F) Package, -40 to 85°C; Published: 28-Aug-2009; DatasheetVersion: Rev.5.00, Mar-2009; PackageVersion: Sep-2005; PackageReference: PLQP0048JA-A; Publisher: Altium Limited; PackageDescription: 48-Pin Plastic Low Profile QFP, 10 x 10 x 1.45 mm Body, 0.65 mm Pitch; Code_JEITA: P-LQFP48-10x10-0.65; ComponentLink1Description: Manufacturer Link; ComponentLink1URL: http://www.renesas.com/fmwk.jsp?cnt=sh7125_root.jsp&fp=/products/mpumcu/superh_family/shtiny_series/sh7125_group/; ComponentLink2Description: Datasheet; ComponentLink2URL: http://documentation.renesas.com/eng/products/mpumcu/rej09b0243_sh7125_7124hm.pdf; ComponentLink3Description: Packaging Specification; ComponentLink3URL: http://sg.renesas.com/media/products/common_info/package/pdf/ic/code/plqp0048ja_a.pdf
footprint PLQP0048JA-A_N (QFP, 48-Leads, Body 10x10mm, Pitch 0.65mm, IPC Medium Density)
footprint PLQP0048JA-A_L (QFP, 48-Leads, Body 10x10mm, Pitch 0.65mm, IPC High Density)
footprint PLQP0048JA-A_M (QFP, 48-Leads, Body 10x10mm, Pitch 0.65mm, IPC Low Density)
part A pins: 1 PE15/TIOC4D/~{IRQOUT} (io), 2 PE14/TIOC4C (io), 3 PE13/TIOC4B/~{MRES} (io), 5 PE12/TIOC4A (io), 7 PE11/TIOC3D (io), 9 PE9/TIOC3B (io), 10 PE10/TIOC3C (io), 11 PE8/TIOC3A (io), 12 PE3/TIOC0D/SCK0 (io), 13 PE2/TIOC0C/TXD0 (io), 14 PE1/TIOC0B/RXD0 (io), 15 PE0/TIOC0A (io), 16 PA9/TCLKD/TXD2/TDO/~{POE8} (io), 18 PA8/TCLKC/RXD2/TDI (io), 20 PA7/TCLKB/SCK2/TCK (io), 21 PA6/TCLKA (io), 22 PA4/IRQ2/TXD1/TMS (io), 23 PA3/IRQ1/RXD1/~{TRST} (io), 24 PA1/~{POE1}/TXD0 (io), 26 PA0/~{POE0}/RXD0 (io), 27 ~{RES} (in), 28 ~{WDTOVF} (out), 29 XTAL (in), 30 EXTAL (in), 31 ~{ASEMD0} (in), 32 NMI (in), 33 FWE/~{ASEBRK}/~{ASEBRKAK}, 34 MD1 (in), 36 PB5/IRQ3/TIC5U (io), 37 PB3/IRQ1/~{POE1}/TIC5V (io), 38 PB1/TIC5W (io), 40 PF7/AN7 (io), 41 PF6/AN6 (io), 42 PF5/AN5 (io), 43 PF4/AN4 (io), 44 PF3/AN3 (io), 45 PF2/AN2 (io), 46 PF1/AN1 (io), 47 PF0/AN0 (io)
part B pins: 4 VCC (power), 8 VCL, 17 VCC (power), 25 VCL, 48 AVCC (power)
part C pins: 6 VSS (power), 19 VSS (power), 35 PLLVSS (power), 39 AVSS (power)

## R5F71240AD50NP
designator U?
32-Bit RISC Microcomputer, SH7125 Series, SH-2 core, 50MHz, 16K ROM, 4K RAM, PVQN0052LE-A Package, -40 to 85°C; Published: 28-Aug-2009; DatasheetVersion: Rev.5.00, Mar-2009; PackageVersion: Jun-2008; PackageReference: PVQN0052LE-A; Publisher: Altium Limited; PackageDescription: 52-Pin Plastic Very Thin QFN, 7 x 7 x 0.89 mm Body, 0.4 mm Pitch; Code_JEITA: P-VQFN52-7x7-0.40; ComponentLink1Description: Manufacturer Link; ComponentLink1URL: http://www.renesas.com/fmwk.jsp?cnt=sh7125_root.jsp&fp=/products/mpumcu/superh_family/shtiny_series/sh7125_group/; ComponentLink2Description: Datasheet; ComponentLink2URL: http://documentation.renesas.com/eng/products/mpumcu/rej09b0243_sh7125_7124hm.pdf; ComponentLink3Description: Packaging Specification; ComponentLink3URL: http://sg.renesas.com/media/products/common_info/package/pdf/ic/code/pvqn0052le_a.pdf
footprint PVQN0052LE-A_N (QFN, 52-Leads, Body 7x7 mm, Pitch 0.4mm, IPC Medium Density)
footprint PVQN0052LE-A_L (QFN, 52-Leads, Body 7x7 mm, Pitch 0.4mm, IPC High Density)
footprint PVQN0052LE-A_M (QFN, 52-Leads, Body 7x7 mm, Pitch 0.4mm, IPC Low Density)
part A pins: 1 PE15/TIOC4D/~{IRQOUT} (io), 2 PE14/TIOC4C (io), 3 PE13/TIOC4B/~{MRES} (io), 5 PE12/TIOC4A (io), 7 PE11/TIOC3D (io), 9 PE9/TIOC3B (io), 10 PE10/TIOC3C (io), 11 PE8/TIOC3A (io), 12 PE3/TIOC0D/SCK0 (io), 13 NC, 14 PE2/TIOC0C/TXD0 (io), 15 PE1/TIOC0B/RXD0 (io), 16 PE0/TIOC0A (io), 17 PA9/TCLKD/TXD2/TDO/~{POE8} (io), 19 PA8/TCLKC/RXD2/TDI (io), 22 PA7/TCLKB/SCK2/TCK (io), 23 PA6/TCLKA (io), 24 PA4/IRQ2/TXD1/TMS (io), 25 PA3/IRQ1/RXD1/~{TRST} (io), 26 PA1/~{POE1}/TXD0 (io), 28 PA0/~{POE0}/TXD0 (io), 29 ~{RES} (in), 30 ~{WDTOVF} (out), 31 XTAL (in), 32 EXTAL (in), 33 ~{ASEMD0} (in), 34 NMI (in), 35 FWE/~{ASEBRK}/~{ASEBRKAK}, 36 MD1 (in), 39 PB5/IRQ3/TIC5U (io), 40 PB3/IRQ1/~{POE1}/TIC5V (io), 41 PB1/TIC5W (io), 43 PF7/AN7 (io), 44 PF6/AN6 (io), 45 PF5/AN5 (io), 46 PF4/AN4 (io), 47 PF3/AN3 (io), 48 PF2/AN2 (io), 49 PF1/AN1 (io), 50 PF0/AN0 (io), 52 NC
part B pins: 4 VCC (power), 8 VCL, 18 VCC (power), 27 VCL, 51 AVCC (power)
part C pins: 6 VSS (power), 20 VSS (power), 21 VSS (power), 37 PLLVSS (power), 38 VSS (power), 42 AVSS (power)

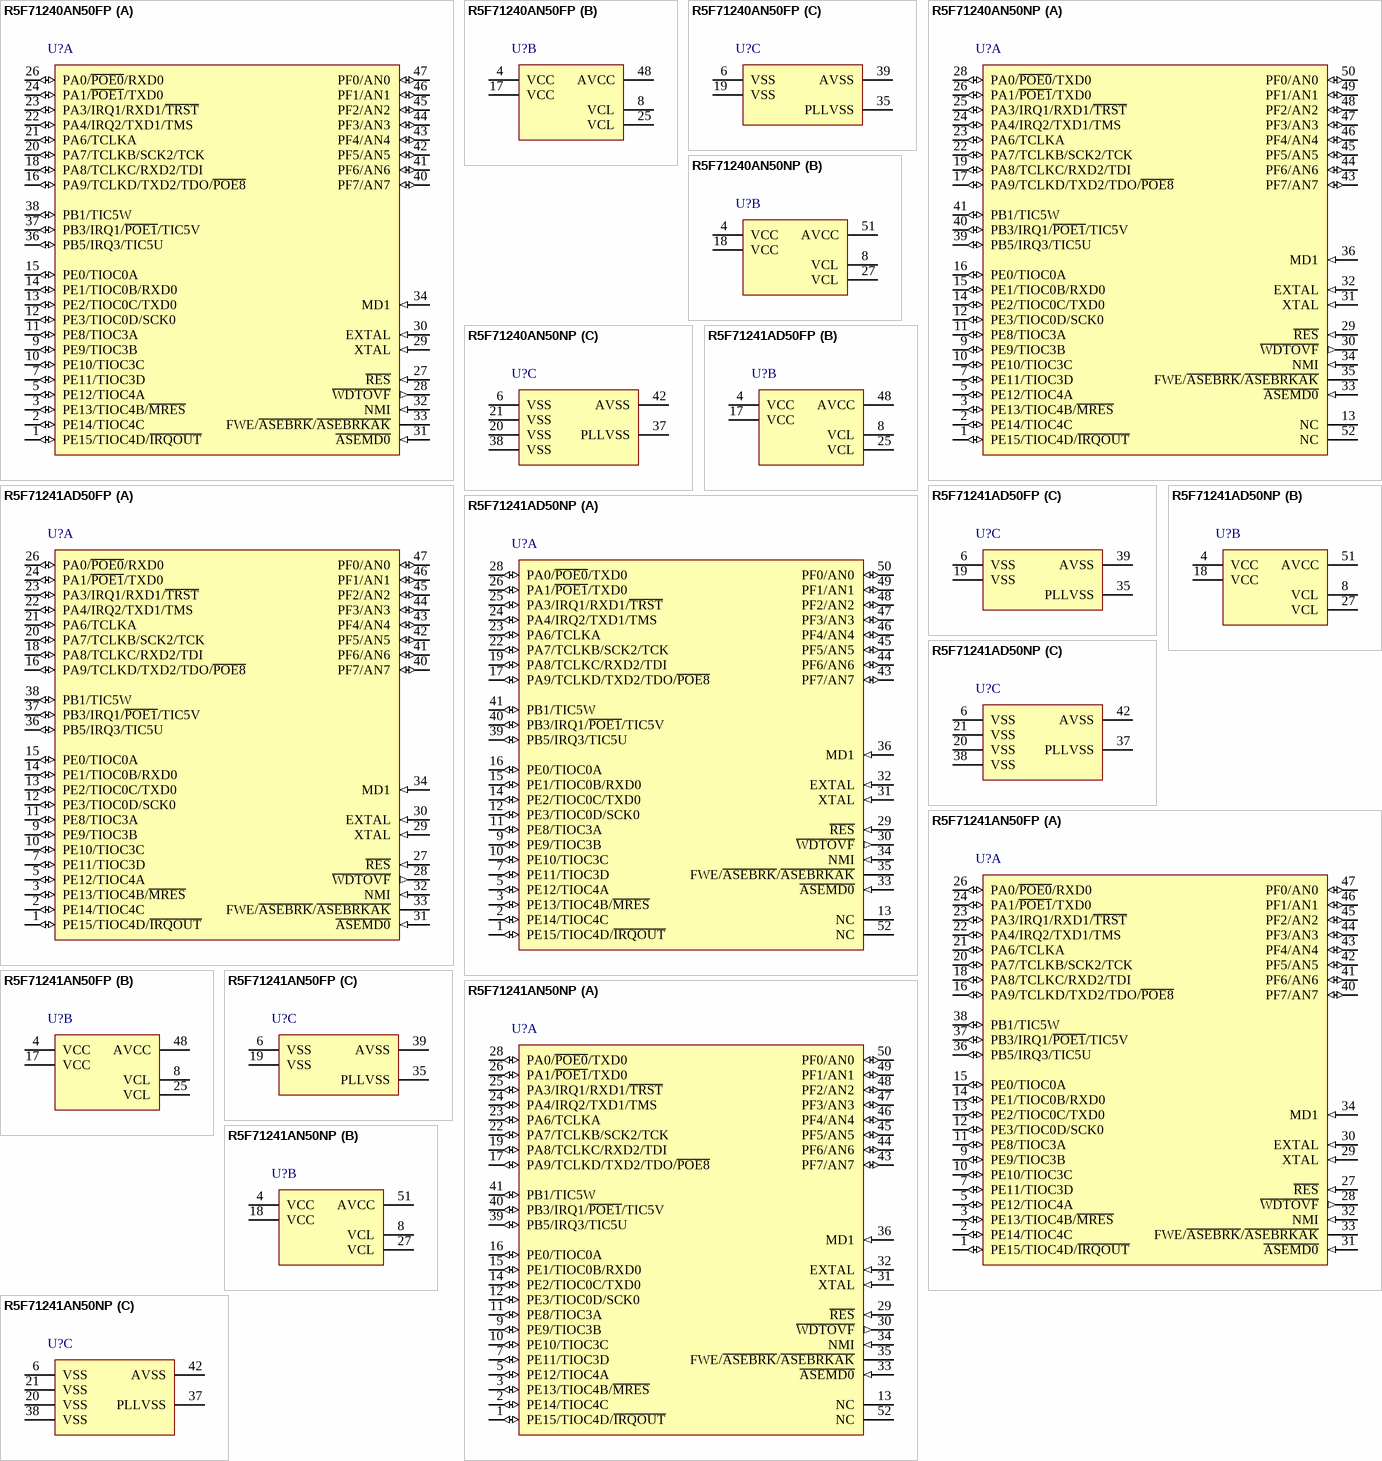
[diagram p140: symbols R5F71240AN50FP to R5F71241AN50NP]